# Altium schematic symbol library JON_1_Library.SchLib: 191 symbols
Pins are listed as number, name and electrical type; pins without a type are passive.

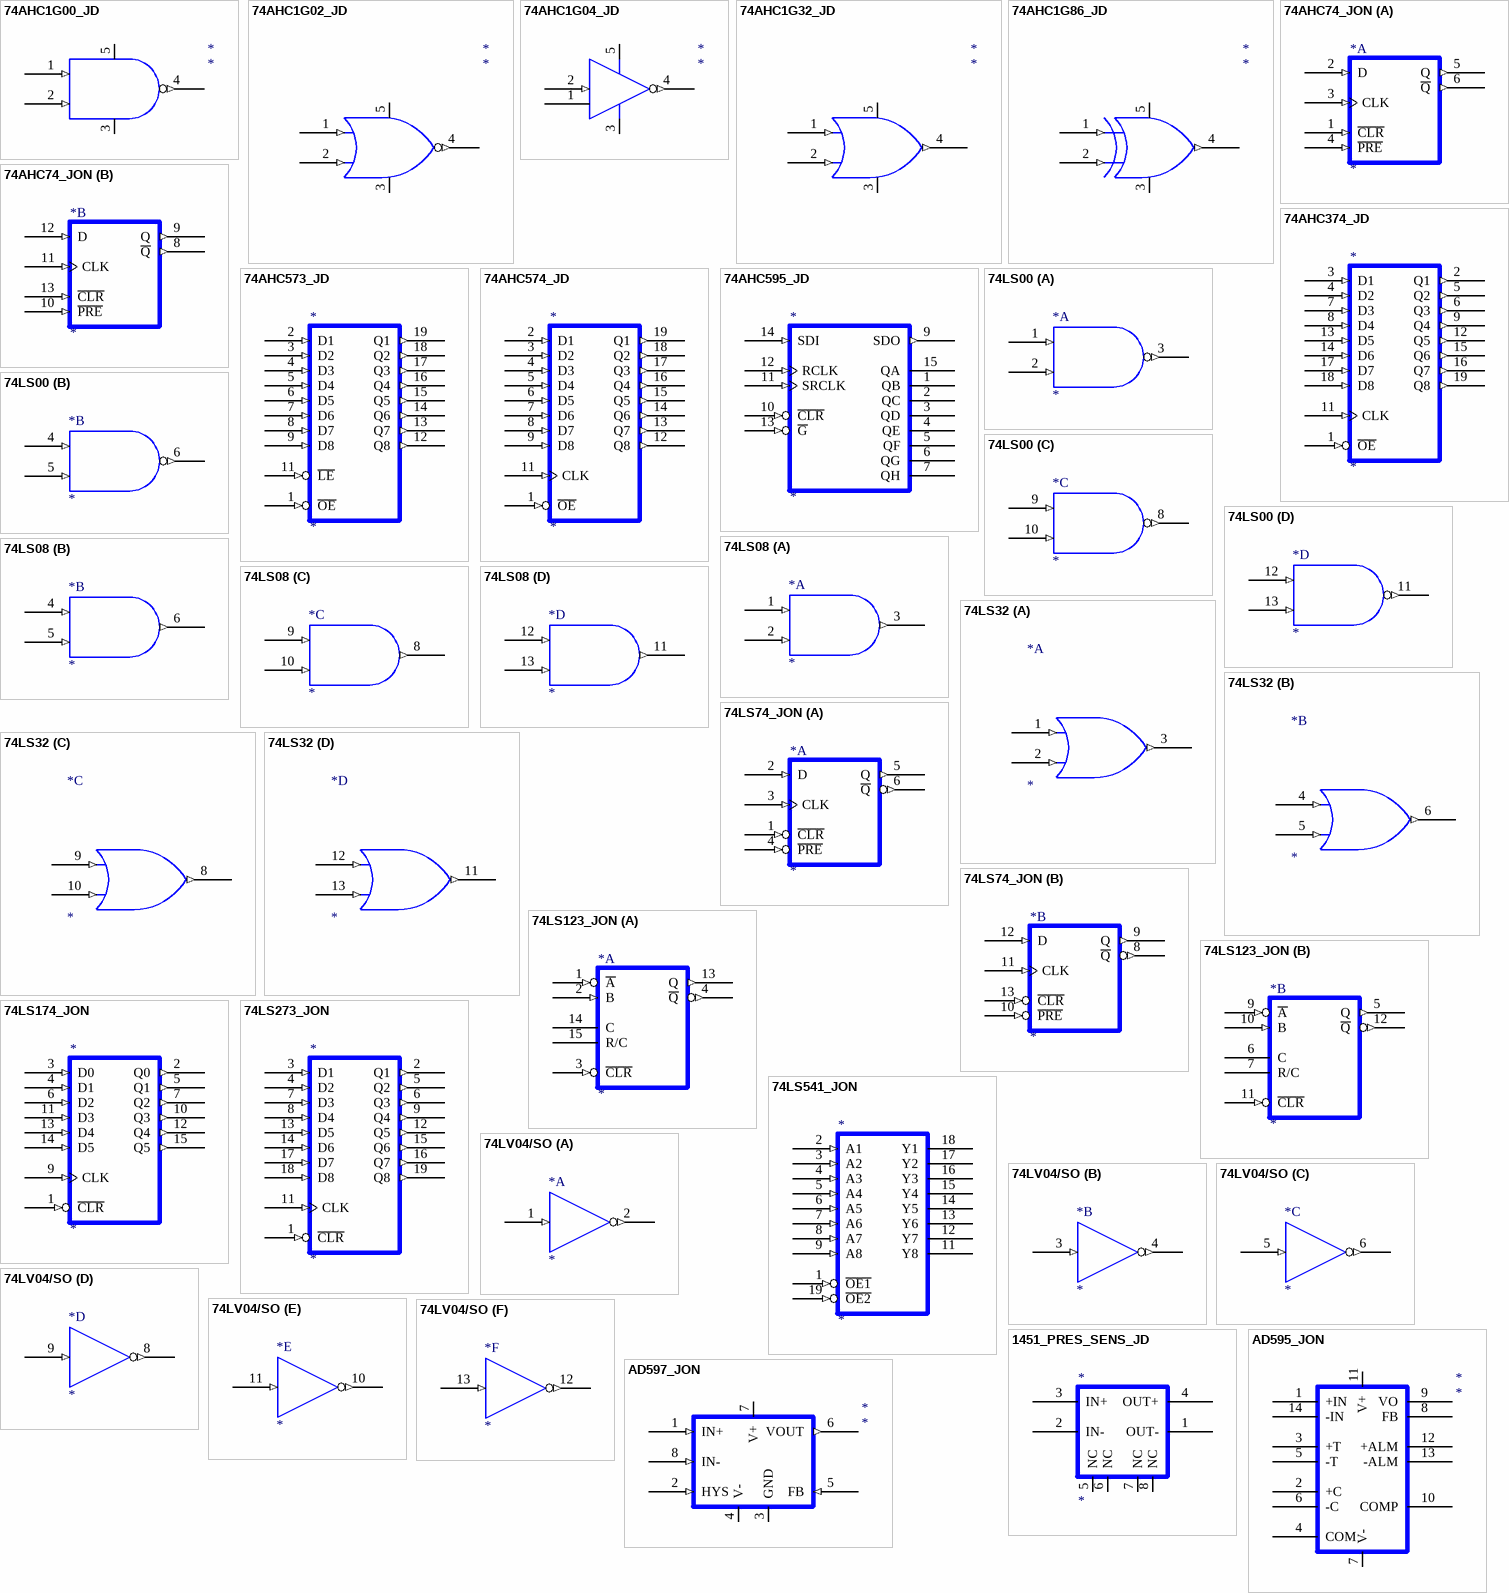
[diagram p0: symbols 74AHC1G00_JD to AD597_JON]

## 74AHC1G00_JD
designator *
Right: 60; Bottom: 40
pins: 1 A (in), 2 B (in), 3 GND, 4 Y (out), 5 VCC

## 74AHC1G02_JD
designator *
Right: 60; Bottom: 40
pins: 1 A (in), 2 B (in), 3 GND, 4 Y (out), 5 VCC

## 74AHC1G04_JD
designator *
Right: 40; Bottom: 40
pins: 1 NC, 2 A (in), 3 GND, 4 Y (out), 5 VCC

## 74AHC1G32_JD
designator *
Right: 60; Bottom: 40
pins: 1 A (in), 2 B (in), 3 GND, 4 Y (out), 5 VCC

## 74AHC1G86_JD
designator *
Right: 60; Bottom: 40
pins: 1 A (in), 2 B (in), 3 GND, 4 Y (out), 5 VCC

## 74AHC74_JON
designator *
Right: 60; Bottom: 70
part A pins: 1 ~{CLR} (in), 2 D (in), 3 CLK (in), 4 ~{PRE} (in), 5 Q (out), 6 ~{Q} (out), 7 GND (power) hidden to GND, 14 VCC (power) hidden to VCC
part B pins: 7 GND (power) hidden to GND, 8 ~{Q} (out), 9 Q (out), 10 ~{PRE} (in), 11 CLK (in), 12 D (in), 13 ~{CLR} (in), 14 VCC (power) hidden to VCC

## 74AHC374_JD
designator *
Right: 60; Bottom: 130
pins: 1 ~{OE} (in), 2 Q1 (out), 3 D1 (in), 4 D2 (in), 5 Q2 (out), 6 Q3 (out), 7 D3 (in), 8 D4 (in), 9 Q4 (out), 10 GND (power) hidden to GND, 11 CLK (in), 12 Q5 (out), 13 D5 (in), 14 D6 (in), 15 Q6 (out), 16 Q7 (out), 17 D7 (in), 18 D8 (in), 19 Q8 (out), 20 VCC (power) hidden to VCC

## 74AHC573_JD
designator *
Right: 60; Bottom: 130
pins: 1 ~{OE} (in), 2 D1 (in), 3 D2 (in), 4 D3 (in), 5 D4 (in), 6 D5 (in), 7 D6 (in), 8 D7 (in), 9 D8 (in), 10 GND (power) hidden to GND, 11 ~{LE} (in), 12 Q8 (out), 13 Q7 (out), 14 Q6 (out), 15 Q5 (out), 16 Q4 (out), 17 Q3 (out), 18 Q2 (out), 19 Q1 (out), 20 VCC (power) hidden to VCC

## 74AHC574_JD
designator *
Right: 60; Bottom: 130
pins: 1 ~{OE} (in), 2 D1 (in), 3 D2 (in), 4 D3 (in), 5 D4 (in), 6 D5 (in), 7 D6 (in), 8 D7 (in), 9 D8 (in), 10 GND (power) hidden to GND, 11 CLK (in), 12 Q8 (out), 13 Q7 (out), 14 Q6 (out), 15 Q5 (out), 16 Q4 (out), 17 Q3 (out), 18 Q2 (out), 19 Q1 (out), 20 VCC (power) hidden to VCC

## 74AHC595_JD
designator *
Right: 80; Bottom: 110
pins: 1 QB (hiz), 2 QC (hiz), 3 QD (hiz), 4 QE (hiz), 5 QF (hiz), 6 QG (hiz), 7 QH (hiz), 8 GND (power) hidden to GND, 9 SDO (out), 10 ~{CLR} (in), 11 SRCLK (in), 12 RCLK (in), 13 ~{G} (in), 14 SDI (in), 15 QA (hiz), 16 VCC (power) hidden to VCC

## 74LS00
designator *
Right: 60; Bottom: 40
part A pins: 1 A (in), 2 B (in), 3 Y (out), 7 GND (power) hidden to GND, 14 VCC (power) hidden to VCC
part B pins: 4 A (in), 5 B (in), 6 Y (out), 7 GND (power) hidden to GND, 14 VCC (power) hidden to VCC
part C pins: 7 GND (power) hidden to GND, 8 Y (out), 9 A (in), 10 B (in), 14 VCC (power) hidden to VCC
part D pins: 7 GND (power) hidden to GND, 11 Y (out), 12 A (in), 13 B (in), 14 VCC (power) hidden to VCC

## 74LS08
designator *
Right: 60; Bottom: 40
part A pins: 1 I0 (in), 2 I1 (in), 3 O (out), 7 GND (power) hidden to GND, 14 VCC (power) hidden to VCC
part B pins: 4 I0 (in), 5 I1 (in), 6 O (out), 7 GND (power) hidden to GND, 14 VCC (power) hidden to VCC
part C pins: 7 GND (power) hidden to GND, 8 O (out), 9 I0 (in), 10 I1 (in), 14 VCC (power) hidden to VCC
part D pins: 7 GND (power) hidden to GND, 11 O (out), 12 I0 (in), 13 I1 (in), 14 VCC (power) hidden to VCC

## 74LS32
designator *
Right: 60; Bottom: 40
part A pins: 1 I0 (in), 2 I1 (in), 3 O (out), 7 GND (power) hidden to GND, 14 VCC (power) hidden to VCC
part B pins: 4 I0 (in), 5 I1 (in), 6 O (out), 7 GND (power) hidden to GND, 14 VCC (power) hidden to VCC
part C pins: 7 GND (power) hidden to GND, 8 O (out), 9 I0 (in), 10 I1 (in), 14 VCC (power) hidden to VCC
part D pins: 7 GND (power) hidden to GND, 11 O (out), 12 I0 (in), 13 I1 (in), 14 VCC (power) hidden to VCC

## 74LS74_JON
designator *
Right: 60; Bottom: 70
part A pins: 1 ~{CLR} (in), 2 D (in), 3 CLK (in), 4 ~{PRE} (in), 5 Q (out), 6 ~{Q} (out), 7 GND (power) hidden to GND, 14 VCC (power) hidden to VCC
part B pins: 7 GND (power) hidden to GND, 8 ~{Q} (out), 9 Q (out), 10 ~{PRE} (in), 11 CLK (in), 12 D (in), 13 ~{CLR} (in), 14 VCC (power) hidden to VCC

## 74LS123_JON
designator *
Right: 60; Bottom: 80
part A pins: 1 ~{A} (in), 2 B (in), 3 ~{CLR} (in), 4 ~{Q} (out), 8 GND (power) hidden to GND, 13 Q (out), 14 C, 15 R/C, 16 VCC (power) hidden to VCC
part B pins: 5 Q (out), 6 C, 7 R/C, 8 GND (power) hidden to GND, 9 ~{A} (in), 10 B (in), 11 ~{CLR} (in), 12 ~{Q} (out), 16 VCC (power) hidden to VCC

## 74LS174_JON
designator *
Right: 60; Bottom: 110
pins: 1 ~{CLR} (in), 2 Q0 (out), 3 D0 (in), 4 D1 (in), 5 Q1 (out), 6 D2 (in), 7 Q2 (out), 8 GND (power) hidden to GND, 9 CLK (in), 10 Q3 (out), 11 D3 (in), 12 Q4 (out), 13 D4 (in), 14 D5 (in), 15 Q5 (out), 16 VCC (power) hidden to VCC

## 74LS273_JON
designator *
Right: 60; Bottom: 130
pins: 1 ~{CLR} (in), 2 Q1 (out), 3 D1 (in), 4 D2 (in), 5 Q2 (out), 6 Q3 (out), 7 D3 (in), 8 D4 (in), 9 Q4 (out), 10 GND (power) hidden to GND, 11 CLK (in), 12 Q5 (out), 13 D5 (in), 14 D6 (in), 15 Q6 (out), 16 Q7 (out), 17 D7 (in), 18 D8 (in), 19 Q8 (out), 20 VCC (power) hidden to VCC

## 74LS541_JON
designator *
Right: 60; Bottom: 120
pins: 1 ~{OE1} (in), 2 A1 (in), 3 A2 (in), 4 A3 (in), 5 A4 (in), 6 A5 (in), 7 A6 (in), 8 A7 (in), 9 A8 (in), 10 GND (power) hidden to GND, 11 Y8 (hiz), 12 Y7 (hiz), 13 Y6 (hiz), 14 Y5 (hiz), 15 Y4 (hiz), 16 Y3 (hiz), 17 Y2 (hiz), 18 Y1 (hiz), 19 ~{OE2} (in), 20 VCC (power) hidden to VCC

## 74LV04/SO
designator *
Right: 40; Bottom: 40
part A pins: 1 A (in), 2 Y (out), 7 GND (power) hidden to GND, 14 VCC (power) hidden to VCC
part B pins: 3 A (in), 4 Y (out), 7 GND (power) hidden to GND, 14 VCC (power) hidden to VCC
part C pins: 5 A (in), 6 Y (out), 7 GND (power) hidden to GND, 14 VCC (power) hidden to VCC
part D pins: 7 GND (power) hidden to GND, 8 Y (out), 9 A (in), 14 VCC (power) hidden to VCC
part E pins: 7 GND (power) hidden to GND, 10 Y (out), 11 A (in), 14 VCC (power) hidden to VCC
part F pins: 7 GND (power) hidden to GND, 12 Y (out), 13 A (in), 14 VCC (power) hidden to VCC

## 1451_PRES_SENS_JD
designator *
Right: 60; Bottom: 60
pins: 1 OUT-, 2 IN-, 3 IN+, 4 OUT+, 5 NC, 6 NC, 7 NC, 8 NC

## AD595_JON
designator *
Right: 60; Bottom: 110
pins: 1 +IN, 2 +C, 3 +T, 4 COM, 5 -T, 6 -C, 7 V-, 8 FB, 9 VO, 10 COMP, 11 V+, 12 +ALM, 13 -ALM, 14 -IN

## AD597_JON
designator *
Right: 80; Bottom: 60
pins: 1 IN+ (in), 2 HYS (in), 3 GND, 4 V-, 5 FB (in), 6 VOUT (out), 7 V+, 8 IN- (in)

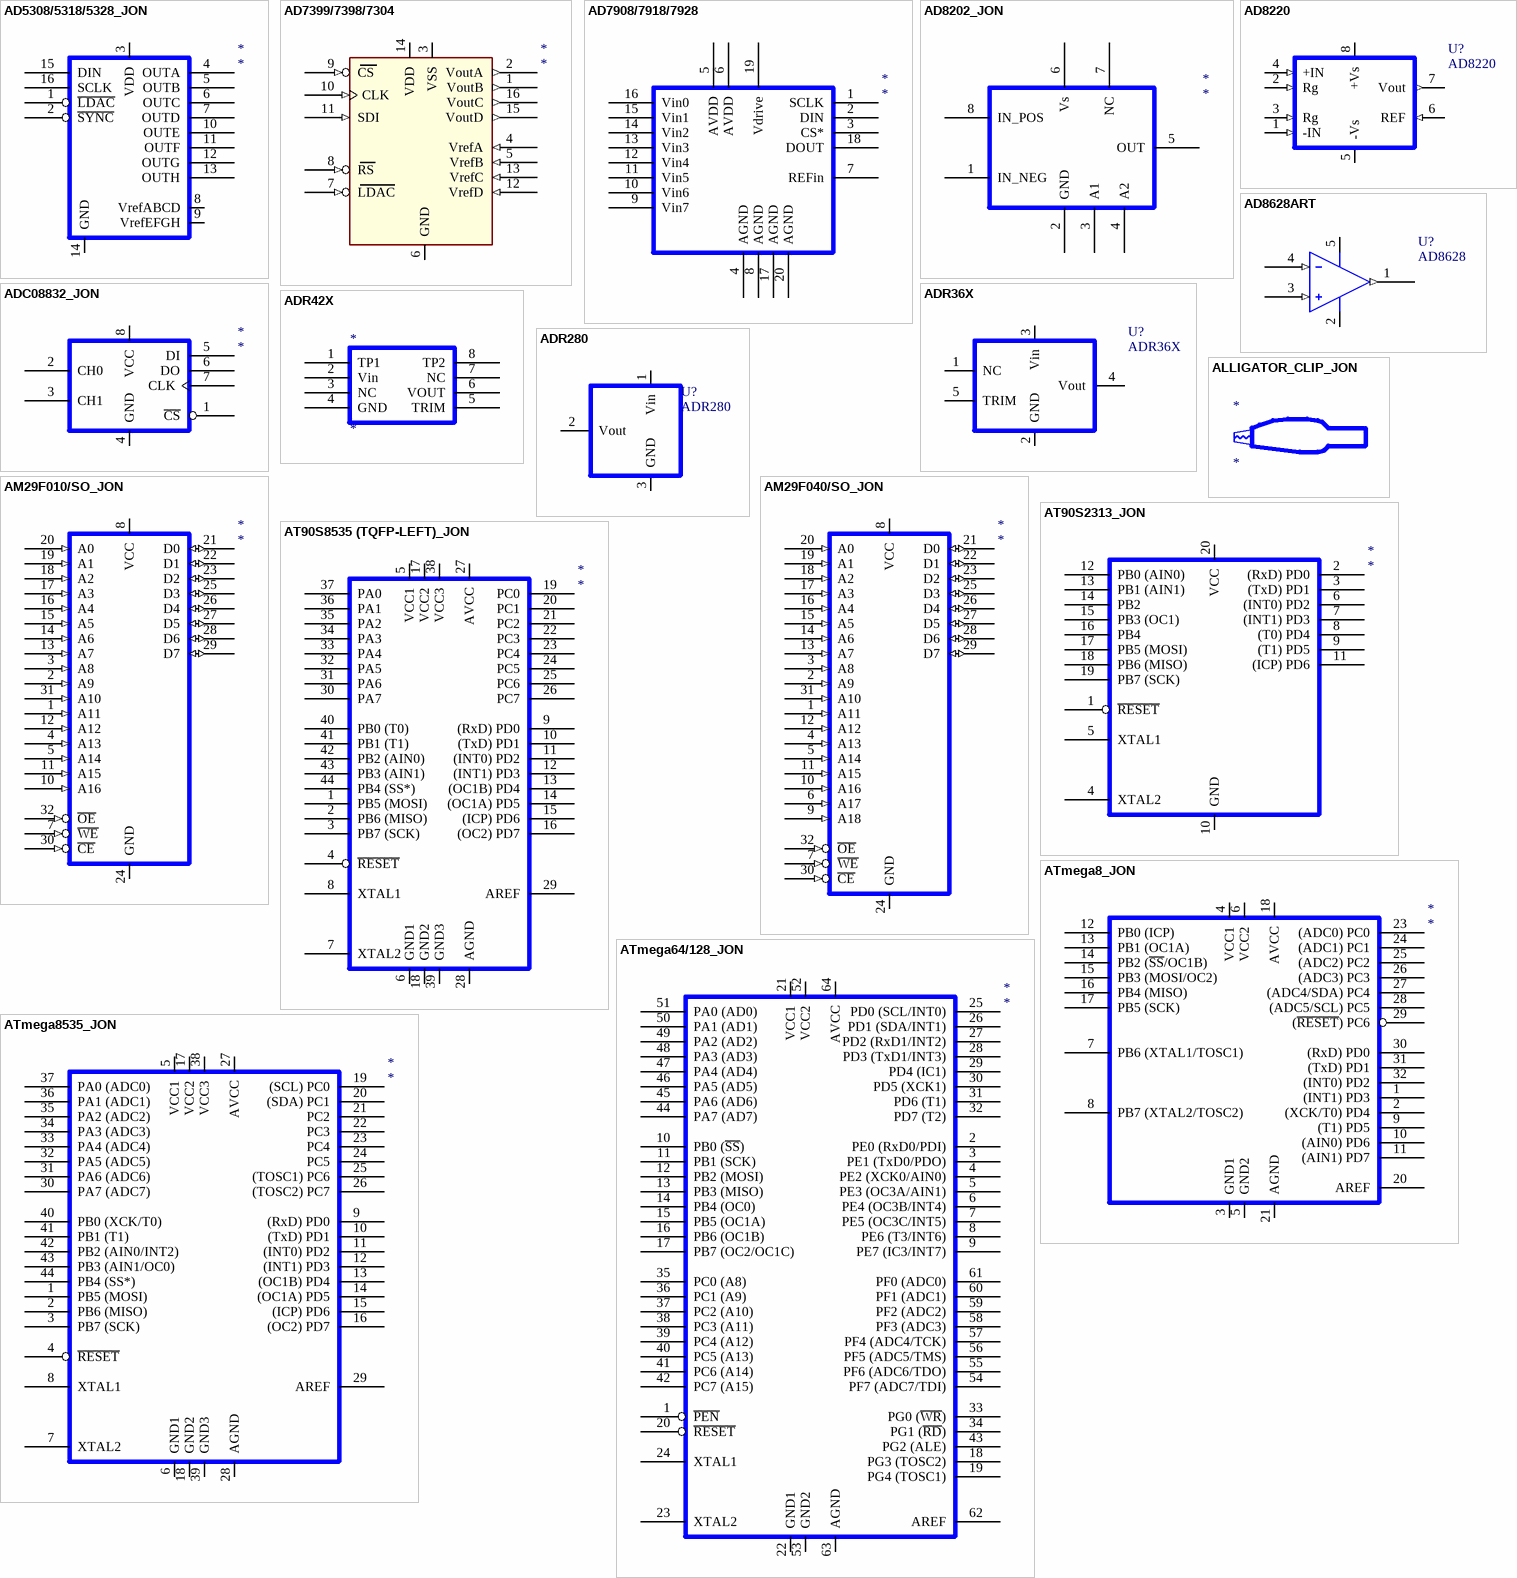
[diagram p1: symbols AD5308/5318/5328_JON to ATmega8535_JON]

## AD5308/5318/5328_JON
designator *
Right: 80; Bottom: 120
pins: 1 ~{LDAC}, 2 ~{SYNC}, 3 VDD, 4 OUTA, 5 OUTB, 6 OUTC, 7 OUTD, 8 VrefABCD, 9 VrefEFGH, 10 OUTE, 11 OUTF, 12 OUTG, 13 OUTH, 14 GND, 15 DIN, 16 SCLK

## AD7399/7398/7304
designator *
pins: 1 VoutB (out), 2 VoutA (out), 3 VSS (power), 4 VrefA (in), 5 VrefB (in), 6 GND (power), 7 LDAC (in), 8 RS (in), 9 CS (in), 10 CLK (in), 11 SDI (in), 12 VrefD (in), 13 VrefC (in), 14 VDD (power), 15 VoutD (out), 16 VoutC (out)

## AD7908/7918/7928
designator *
Right: 120; Bottom: 110
pins: 1 SCLK, 2 DIN, 3 CS*, 4 AGND, 5 AVDD, 6 AVDD, 7 REFin, 8 AGND, 9 Vin7, 10 Vin6, 11 Vin5, 12 Vin4, 13 Vin3, 14 Vin2, 15 Vin1, 16 Vin0, 17 AGND, 18 DOUT, 19 Vdrive, 20 AGND

## AD8202_JON
designator *
Right: 110; Bottom: 80
pins: 1 IN_NEG, 2 GND, 3 A1, 4 A2, 5 OUT, 6 Vs, 7 NC, 8 IN_POS

## AD8220
designator U?
pins: 1 -IN (in), 2 Rg (in), 3 Rg (in), 4 +IN (in), 5 -Vs (power), 6 REF (in), 7 Vout (out), 8 +Vs (power)

## AD8628ART
designator U?, comment AD8628
simulation model ad8628 (Model Description)
pins: 1 OUT (out), 2 V-, 3 +IN (in), 4 -IN (in), 5 V+

## ADC08832_JON
designator *
Right: 80; Bottom: 60
pins: 1 ~{CS}, 2 CH0, 3 CH1, 4 GND, 5 DI, 6 DO, 7 CLK, 8 VCC

## ADR36X
designator U?
pins: 1 NC, 2 GND, 3 Vin, 4 Vout, 5 TRIM

## ADR42X
designator *
Right: 70; Bottom: 50
pins: 1 TP1, 2 Vin, 3 NC, 4 GND, 5 TRIM, 6 VOUT, 7 NC, 8 TP2

## ADR280
designator U?
pins: 1 Vin, 2 Vout, 3 GND

## ALLIGATOR_CLIP_JON
designator *
Right: 90; Bottom: 40

## AM29F010/SO_JON
designator *
Right: 80; Bottom: 220
pins: 1 A11 (in), 2 A9 (in), 3 A8 (in), 4 A13 (in), 5 A14 (in), 7 ~{WE} (in), 8 VCC, 10 A16 (in), 11 A15 (in), 12 A12 (in), 13 A7 (in), 14 A6 (in), 15 A5 (in), 16 A4 (in), 17 A3 (in), 18 A2 (in), 19 A1 (in), 20 A0 (in), 21 D0 (io), 22 D1 (io), 23 D2 (io), 24 GND, 25 D3 (io), 26 D4 (io), 27 D5 (io), 28 D6 (io), 29 D7 (io), 30 ~{CE} (in), 31 A10 (in), 32 ~{OE} (in)

## AM29F040/SO_JON
designator *
Right: 80; Bottom: 240
pins: 1 A11 (in), 2 A9 (in), 3 A8 (in), 4 A13 (in), 5 A14 (in), 6 A17 (in), 7 ~{WE} (in), 8 VCC, 9 A18 (in), 10 A16 (in), 11 A15 (in), 12 A12 (in), 13 A7 (in), 14 A6 (in), 15 A5 (in), 16 A4 (in), 17 A3 (in), 18 A2 (in), 19 A1 (in), 20 A0 (in), 21 D0 (io), 22 D1 (io), 23 D2 (io), 24 GND, 25 D3 (io), 26 D4 (io), 27 D5 (io), 28 D6 (io), 29 D7 (io), 30 ~{CE} (in), 31 A10 (in), 32 ~{OE} (in)

## AT90S2313_JON
designator *
Right: 140; Bottom: 170
pins: 1 ~{RESET}, 2 (RxD) PD0, 3 (TxD) PD1, 4 XTAL2, 5 XTAL1, 6 (INT0) PD2, 7 (INT1) PD3, 8 (T0) PD4, 9 (T1) PD5, 10 GND, 11 (ICP) PD6, 12 PB0 (AIN0), 13 PB1 (AIN1), 14 PB2, 15 PB3 (OC1), 16 PB4, 17 PB5 (MOSI), 18 PB6 (MISO), 19 PB7 (SCK), 20 VCC

## AT90S8535 (TQFP-LEFT)_JON
designator *
Right: 120; Bottom: 260
pins: 1 PB5 (MOSI), 2 PB6 (MISO), 3 PB7 (SCK), 4 ~{RESET}, 5 VCC1, 6 GND1, 7 XTAL2, 8 XTAL1, 9 (RxD) PD0, 10 (TxD) PD1, 11 (INT0) PD2, 12 (INT1) PD3, 13 (OC1B) PD4, 14 (OC1A) PD5, 15 (ICP) PD6, 16 (OC2) PD7, 17 VCC2, 18 GND2, 19 PC0, 20 PC1, 21 PC2, 22 PC3, 23 PC4, 24 PC5, 25 PC6, 26 PC7, 27 AVCC, 28 AGND, 29 AREF, 30 PA7, 31 PA6, 32 PA5, 33 PA4, 34 PA3, 35 PA2, 36 PA1, 37 PA0, 38 VCC3, 39 GND3, 40 PB0 (T0), 41 PB1 (T1), 42 PB2 (AIN0), 43 PB3 (AIN1), 44 PB4 (SS*)

## ATmega8_JON
designator *
Right: 180; Bottom: 190
pins: 1 (INT1) PD3, 2 (XCK/T0) PD4, 3 GND1, 4 VCC1, 5 GND2, 6 VCC2, 7 PB6 (XTAL1/TOSC1), 8 PB7 (XTAL2/TOSC2), 9 (T1) PD5, 10 (AIN0) PD6, 11 (AIN1) PD7, 12 PB0 (ICP), 13 PB1 (OC1A), 14 PB2 (~{SS}/OC1B), 15 PB3 (MOSI/OC2), 16 PB4 (MISO), 17 PB5 (SCK), 18 AVCC, 20 AREF, 21 AGND, 23 (ADC0) PC0, 24 (ADC1) PC1, 25 (ADC2) PC2, 26 (ADC3) PC3, 27 (ADC4/SDA) PC4, 28 (ADC5/SCL) PC5, 29 (~{RESET}) PC6, 30 (RxD) PD0, 31 (TxD) PD1, 32 (INT0) PD2

## ATmega64/128_JON
designator *
Right: 180; Bottom: 360
pins: 1 ~{PEN}, 2 PE0 (RxD0/PDI), 3 PE1 (TxD0/PDO), 4 PE2 (XCK0/AIN0), 5 PE3 (OC3A/AIN1), 6 PE4 (OC3B/INT4), 7 PE5 (OC3C/INT5), 8 PE6 (T3/INT6), 9 PE7 (IC3/INT7), 10 PB0 (~{SS}), 11 PB1 (SCK), 12 PB2 (MOSI), 13 PB3 (MISO), 14 PB4 (OC0), 15 PB5 (OC1A), 16 PB6 (OC1B), 17 PB7 (OC2/OC1C), 18 PG3 (TOSC2), 19 PG4 (TOSC1), 20 ~{RESET}, 21 VCC1, 22 GND1, 23 XTAL2, 24 XTAL1, 25 PD0 (SCL/INT0), 26 PD1 (SDA/INT1), 27 PD2 (RxD1/INT2), 28 PD3 (TxD1/INT3), 29 PD4 (IC1), 30 PD5 (XCK1), 31 PD6 (T1), 32 PD7 (T2), 33 PG0 (~{WR}), 34 PG1 (~{RD}), 35 PC0 (A8), 36 PC1 (A9), 37 PC2 (A10), 38 PC3 (A11), 39 PC4 (A12), 40 PC5 (A13), 41 PC6 (A14), 42 PC7 (A15), 43 PG2 (ALE), 44 PA7 (AD7), 45 PA6 (AD6), 46 PA5 (AD5), 47 PA4 (AD4), 48 PA3 (AD3), 49 PA2 (AD2), 50 PA1 (AD1), 51 PA0 (AD0), 52 VCC2, 53 GND2, 54 PF7 (ADC7/TDI), 55 PF6 (ADC6/TDO), 56 PF5 (ADC5/TMS), 57 PF4 (ADC4/TCK), 58 PF3 (ADC3), 59 PF2 (ADC2), 60 PF1 (ADC1), 61 PF0 (ADC0), 62 AREF, 63 AGND, 64 AVCC

## ATmega8535_JON
designator *
Right: 180; Bottom: 260
pins: 1 PB5 (MOSI), 2 PB6 (MISO), 3 PB7 (SCK), 4 ~{RESET}, 5 VCC1, 6 GND1, 7 XTAL2, 8 XTAL1, 9 (RxD) PD0, 10 (TxD) PD1, 11 (INT0) PD2, 12 (INT1) PD3, 13 (OC1B) PD4, 14 (OC1A) PD5, 15 (ICP) PD6, 16 (OC2) PD7, 17 VCC2, 18 GND2, 19 (SCL) PC0, 20 (SDA) PC1, 21 PC2, 22 PC3, 23 PC4, 24 PC5, 25 (TOSC1) PC6, 26 (TOSC2) PC7, 27 AVCC, 28 AGND, 29 AREF, 30 PA7 (ADC7), 31 PA6 (ADC6), 32 PA5 (ADC5), 33 PA4 (ADC4), 34 PA3 (ADC3), 35 PA2 (ADC2), 36 PA1 (ADC1), 37 PA0 (ADC0), 38 VCC3, 39 GND3, 40 PB0 (XCK/T0), 41 PB1 (T1), 42 PB2 (AIN0/INT2), 43 PB3 (AIN1/OC0), 44 PB4 (SS*)

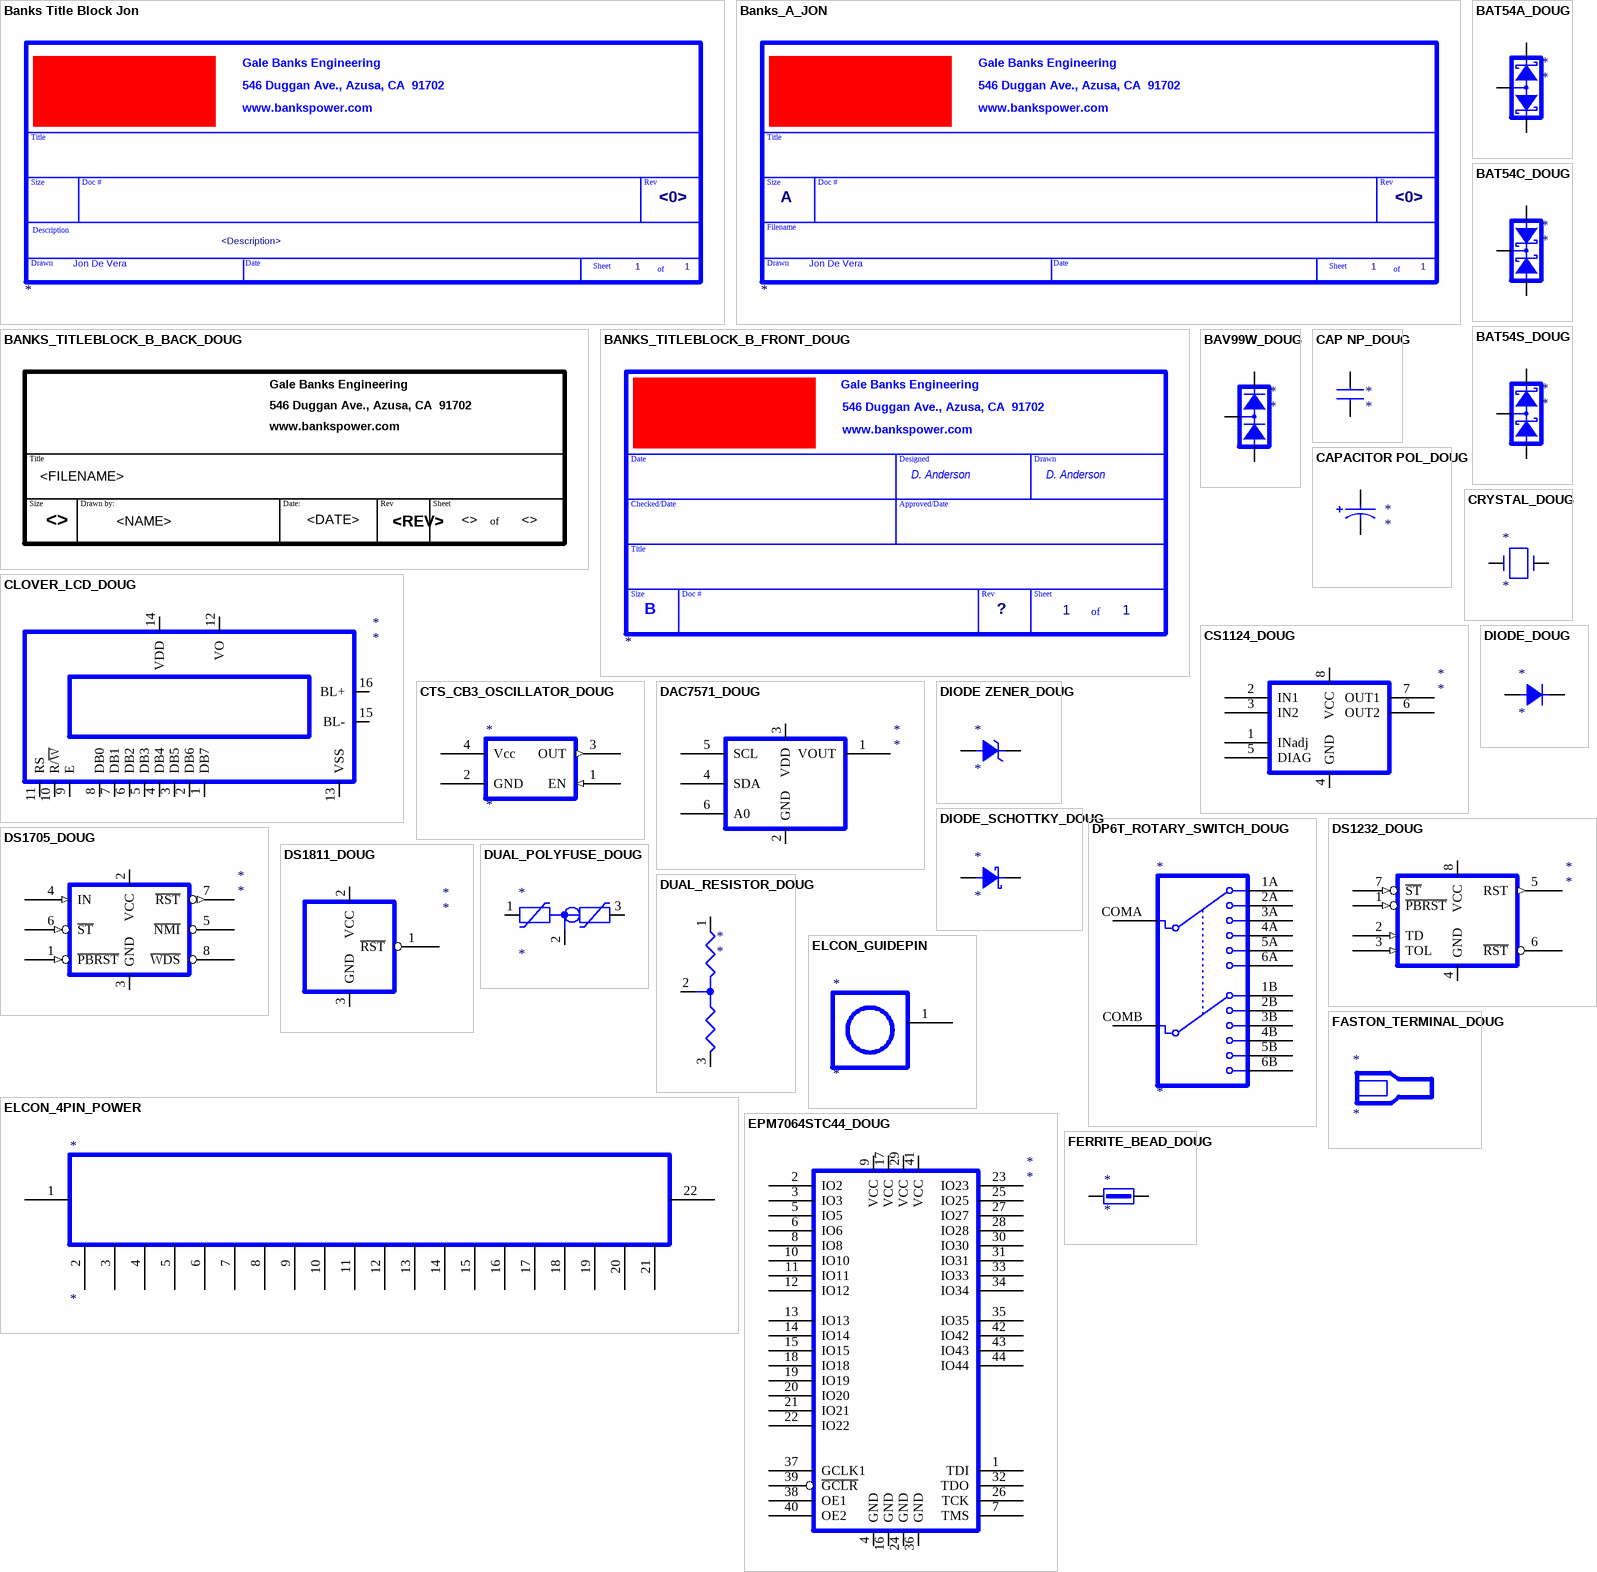
[diagram p2: symbols Banks Title Block Jon to FERRITE_BEAD_DOUG]

## Banks Title Block Jon
designator *  RevCode: <0>  Page Number: 1  Sheet Description: <Description>  (graphical)
Page Size: A; Right: 450; Bottom: 160; Page Count: 1
text: Gale Banks Engineering; 546 Duggan Ave., Azusa, CA  91702; www.bankspower.com; Title; Size; Doc #; Rev; Description; Drawn; Jon De Vera; Date; Sheet; of

## Banks_A_JON
designator *  Page Size: A  Page Count: 1  RevCode: <0>  (graphical)
Right: 450; Bottom: 160; Page Number: 1
text: Gale Banks Engineering; 546 Duggan Ave., Azusa, CA  91702; www.bankspower.com; Title; Size; Doc #; Rev; Filename; Drawn; Jon De Vera; Date; Sheet; of

## BANKS_TITLEBLOCK_B_BACK_DOUG
designator *  Design File Name: <FILENAME>  Page Modify Date: <DATE>  Page Size: <>  Author: <NAME>  RevCode: <REV>  (hidden comment: *)  (graphical)
Right: 360; Bottom: 120; Page Number: <>; Page Count: <>
text: Gale Banks Engineering; 546 Duggan Ave., Azusa, CA  91702; www.bankspower.com; Title; Size; Drawn by:; Date:; Rev; Sheet; of

## BANKS_TITLEBLOCK_B_FRONT_DOUG
designator *  Page Number: 1  (graphical)
Right: 360; Bottom: 180; Page Size: ?; RevCode: ?; Page Count: 1
text: Gale Banks Engineering; 546 Duggan Ave., Azusa, CA  91702; www.bankspower.com; Date; Designed; Drawn; D. Anderson; Checked/Date; Approved/Date; Title; Size; Doc #; Rev; Sheet; B; of

## BAT54A_DOUG
designator *
Right: 20; Bottom: 40
pins: ANOD, CATH1, CATH2

## BAT54C_DOUG
designator *
Right: 20; Bottom: 40
pins: ANOD1, ANOD2, CATH

## BAT54S_DOUG
designator *
Right: 20; Bottom: 40
footprint SOT23A (SOT-23; 3 Leads; Body 3.0 x 2.5 mm, inc. leads (LxW max)); pin to pad ANOD>1 CATH>2 JUNC>3
pins: ANOD, CATH, JUNC

## BAV99W_DOUG
designator *
Right: 20; Bottom: 40
pins: ANOD, CATH, JUNC

## CAP NP_DOUG
designator *
Right: 20; Bottom: 10
pins: 1, 2

## CAPACITOR POL_DOUG
designator *
Right: 30; Bottom: 10
pins: 1 POS, 2 NEG

## CLOVER_LCD_DOUG
designator *
Right: 220; Bottom: 100
pins: 1 DB7, 2 DB6, 3 DB5, 4 DB4, 5 DB3, 6 DB2, 7 DB1, 8 DB0, 9 E, 10 R/~{W}, 11 RS, 12 VO, 13 VSS, 14 VDD, 15 BL-, 16 BL+

## CRYSTAL_DOUG
designator *
Right: 20; Bottom: 20
pins: 1, 2

## CS1124_DOUG
designator *
Right: 80; Bottom: 60
pins: 1 INadj, 2 IN1, 3 IN2, 4 GND, 5 DIAG, 6 OUT2, 7 OUT1, 8 VCC

## CTS_CB3_OSCILLATOR_DOUG
designator *
Right: 60; Bottom: 40
pins: 1 EN (in), 2 GND, 3 OUT (out), 4 Vcc

## DAC7571_DOUG
designator *
Right: 80; Bottom: 60
pins: 1 VOUT, 2 GND, 3 VDD, 4 SDA, 5 SCL, 6 A0

## DIODE ZENER_DOUG
designator *
Right: 20; Bottom: 20
pins: ANOD, CATH

## DIODE_DOUG
designator *
Right: 20; Bottom: 20
pins: ANOD, CATH

## DIODE_SCHOTTKY_DOUG
designator *
Right: 20; Bottom: 20
pins: ANOD, CATH

## DP6T_ROTARY_SWITCH_DOUG
designator *
Right: 60; Bottom: 140
pins: 1A, 1B, 2A, 2B, 3A, 3B, 4A, 4B, 5A, 5B, 6A, 6B, COMA, COMB

## DS1232_DOUG
designator *
Right: 80; Bottom: 60
pins: 1 ~{PBRST} (in), 2 TD (in), 3 TOL (in), 4 GND, 5 RST (out), 6 ~{RST} (oc), 7 ~{ST} (in), 8 VCC

## DS1705_DOUG
designator *
Right: 80; Bottom: 60
pins: 1 ~{PBRST} (in), 2 VCC, 3 GND, 4 IN (in), 5 ~{NMI} (oc), 6 ~{ST} (in), 7 ~{RST} (out), 8 ~{WDS} (oc)

## DS1811_DOUG
designator *
Right: 60; Bottom: 60
pins: 1 ~{RST}, 2 VCC, 3 GND

## DUAL_POLYFUSE_DOUG
designator *
Right: 60; Bottom: 20
pins: 1, 2, 3

## DUAL_RESISTOR_DOUG
designator *
Right: 20; Bottom: 80
pins: 1, 2, 3

## ELCON_4PIN_POWER
designator *
Right: 400; Bottom: 60
pins: 1, 2, 3, 4, 5, 6, 7, 8, 9, 10, 11, 12, 13, 14, 15, 16, 17, 18, 19, 20, 21, 22

## ELCON_GUIDEPIN
designator *
Right: 50; Bottom: 50
pins: 1

## EPM7064STC44_DOUG
designator *
Right: 110; Bottom: 240
pins: 1 TDI, 2 IO2, 3 IO3, 4 GND, 5 IO5, 6 IO6, 7 TMS, 8 IO8, 9 VCC, 10 IO10, 11 IO11, 12 IO12, 13 IO13, 14 IO14, 15 IO15, 16 GND, 17 VCC, 18 IO18, 19 IO19, 20 IO20, 21 IO21, 22 IO22, 23 IO23, 24 GND, 25 IO25, 26 TCK, 27 IO27, 28 IO28, 29 VCC, 30 IO30, 31 IO31, 32 TDO, 33 IO33, 34 IO34, 35 IO35, 36 GND, 37 GCLK1, 38 OE1, 39 ~{GCLR}, 40 OE2, 41 VCC, 42 IO42, 43 IO43, 44 IO44

## FASTON_TERMINAL_DOUG
designator *
Right: 50; Bottom: 20

## FERRITE_BEAD_DOUG
designator *
Right: 20; Bottom: 20
pins: 1, 2

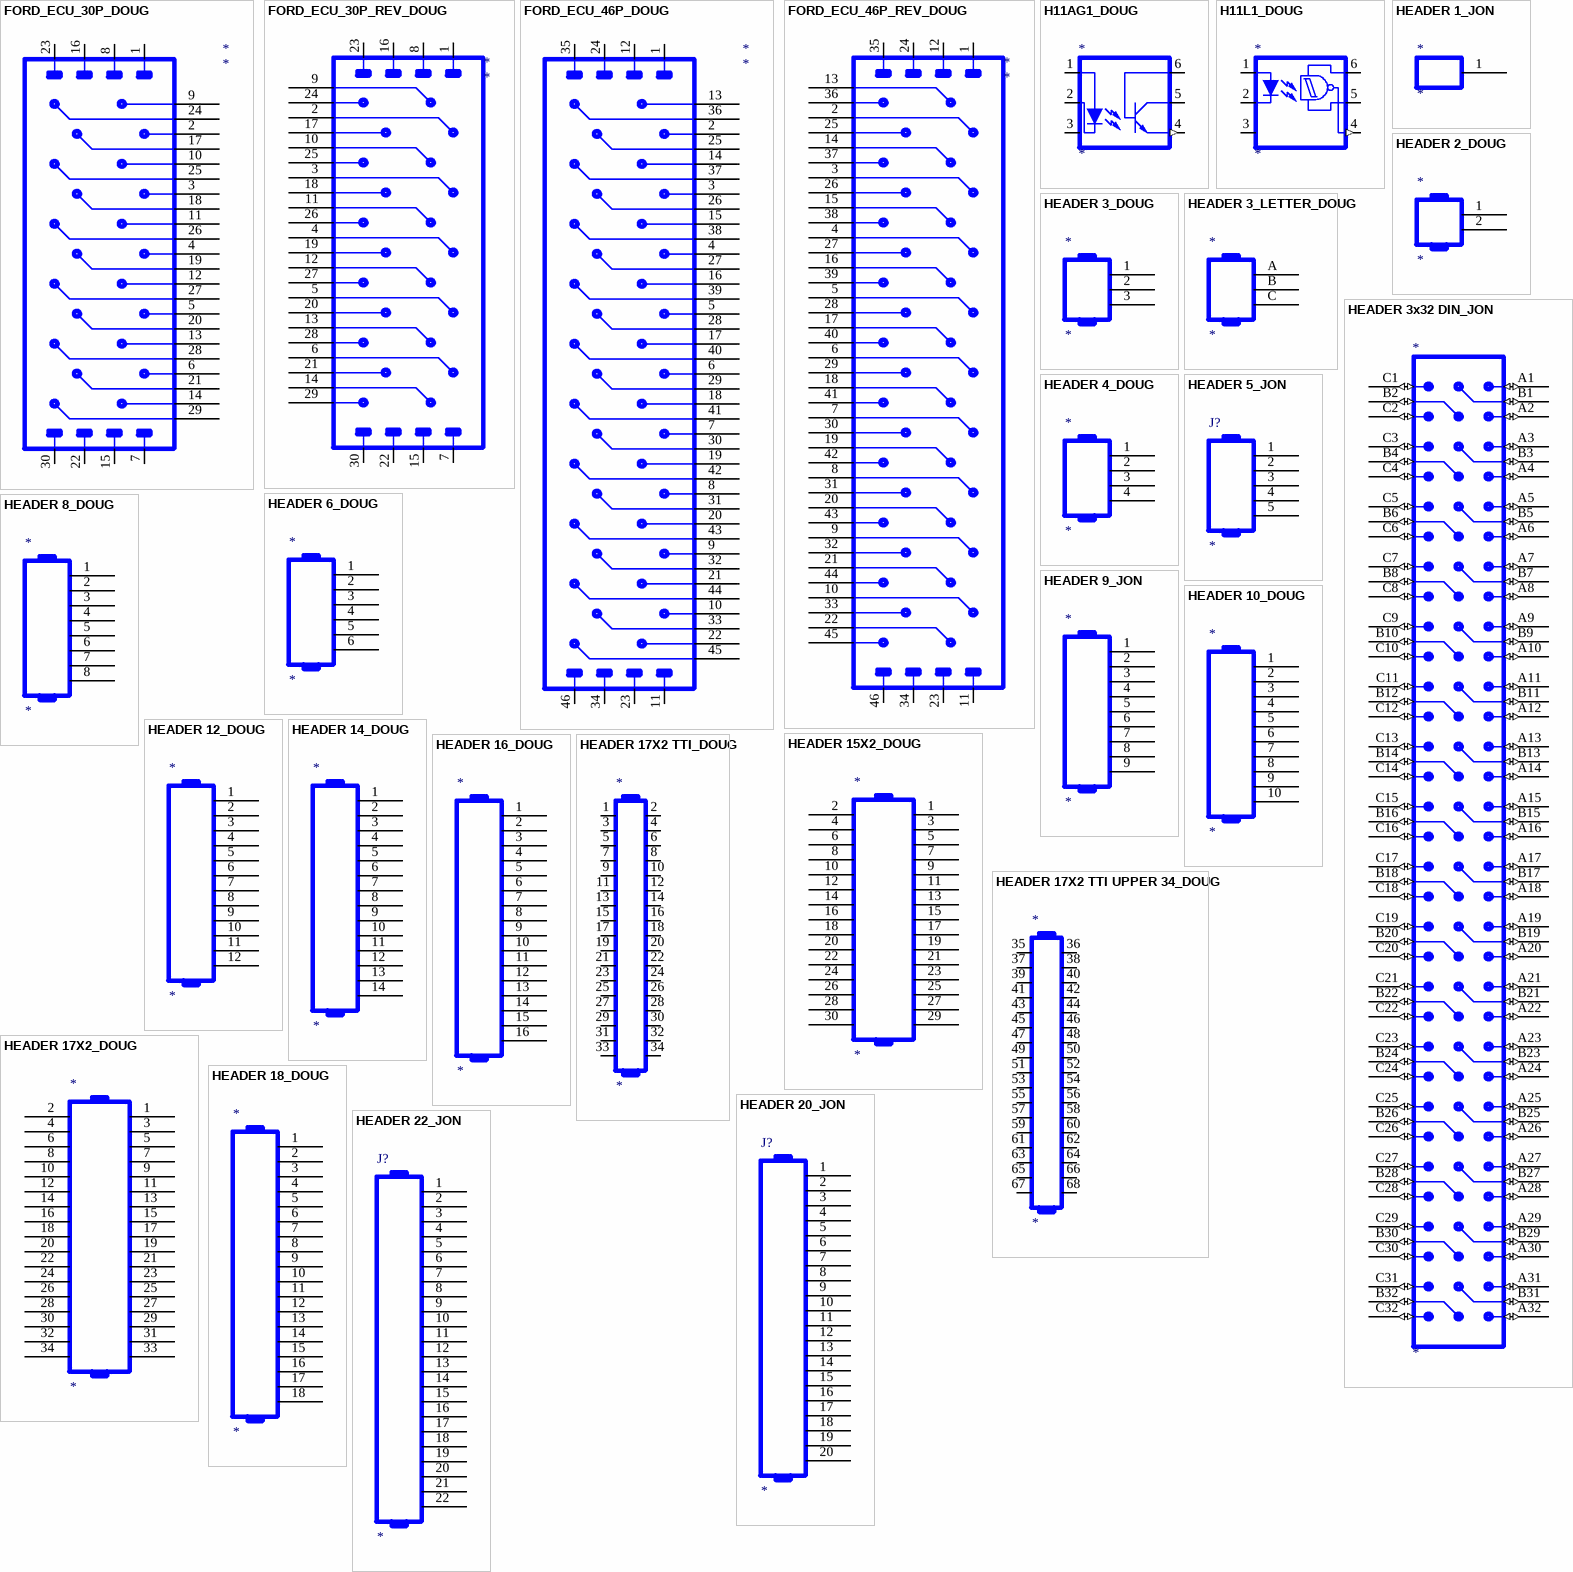
[diagram p3: symbols FORD_ECU_30P_DOUG to HEADER 22_JON]

## FORD_ECU_30P_DOUG
designator *
Right: 100; Bottom: 260
pins: 1, 2, 3, 4, 5, 6, 7, 8, 9, 10, 11, 12, 13, 14, 15, 16, 17, 18, 19, 20, 21, 22, 23, 24, 25, 26, 27, 28, 29, 30

## FORD_ECU_30P_REV_DOUG
designator *
Right: 100; Bottom: 260
pins: 1, 2, 3, 4, 5, 6, 7, 8, 9, 10, 11, 12, 13, 14, 15, 16, 17, 18, 19, 20, 21, 22, 23, 24, 25, 26, 27, 28, 29, 30

## FORD_ECU_46P_DOUG
designator *
Right: 100; Bottom: 420
pins: 1, 2, 3, 4, 5, 6, 7, 8, 9, 10, 11, 12, 13, 14, 15, 16, 17, 18, 19, 20, 21, 22, 23, 24, 25, 26, 27, 28, 29, 30, 31, 32, 33, 34, 35, 36, 37, 38, 39, 40, 41, 42, 43, 44, 45, 46

## FORD_ECU_46P_REV_DOUG
designator *
Right: 100; Bottom: 420
pins: 1, 2, 3, 4, 5, 6, 7, 8, 9, 10, 11, 12, 13, 14, 15, 16, 17, 18, 19, 20, 21, 22, 23, 24, 25, 26, 27, 28, 29, 30, 31, 32, 33, 34, 35, 36, 37, 38, 39, 40, 41, 42, 43, 44, 45, 46

## H11AG1_DOUG
designator *
Right: 60; Bottom: 60
pins: 1 LED ANODE, 2 LED CATHODE, 3 NC, 4 DET EMIT (out), 5 DET COLL, 6 DET BASE

## H11L1_DOUG
designator *
Right: 60; Bottom: 60
pins: 1 LED ANODE, 2 LED CATHODE, 3 NC, 4 OUT (out), 5 GROUND, 6 +VCC

## HEADER 1_JON
designator *
pins: 1

## HEADER 2_DOUG
designator *
Right: 30; Bottom: 50
pins: 1, 2

## HEADER 3_DOUG
designator *
Right: 30; Bottom: 60
pins: 1, 2, 3

## HEADER 3_LETTER_DOUG
designator *
Right: 30; Bottom: 60
pins: A, B, C

## HEADER 3x32 DIN_JON
designator *
Right: 60; Bottom: 660
pins: A1 (io), A2 (io), A3 (io), A4 (io), A5 (io), A6 (io), A7 (io), A8 (io), A9 (io), A10 (io), A11 (io), A12 (io), A13 (io), A14 (io), A15 (io), A16 (io), A17 (io), A18 (io), A19 (io), A20 (io), A21 (io), A22 (io), A23 (io), A24 (io), A25 (io), A26 (io), A27 (io), A28 (io), A29 (io), A30 (io), A31 (io), A32 (io), B1 (io), B2 (io), B3 (io), B4 (io), B5 (io), B6 (io), B7 (io), B8 (io), B9 (io), B10 (io), B11 (io), B12 (io), B13 (io), B14 (io), B15 (io), B16 (io), B17 (io), B18 (io), B19 (io), B20 (io), B21 (io), B22 (io), B23 (io), B24 (io), B25 (io), B26 (io), B27 (io), B28 (io), B29 (io), B30 (io), B31 (io), B32 (io), C1 (io), C2 (io), C3 (io), C4 (io), C5 (io), C6 (io), C7 (io), C8 (io), C9 (io), C10 (io), C11 (io), C12 (io), C13 (io), C14 (io), C15 (io), C16 (io), C17 (io), C18 (io), C19 (io), C20 (io), C21 (io), C22 (io), C23 (io), C24 (io), C25 (io), C26 (io), C27 (io), C28 (io), C29 (io), C30 (io), C31 (io), C32 (io)

## HEADER 4_DOUG
designator *
Right: 30; Bottom: 70
pins: 1, 2, 3, 4

## HEADER 5_JON
designator J?
pins: 1, 2, 3, 4, 5

## HEADER 6_DOUG
designator *
Right: 30; Bottom: 90
pins: 1, 2, 3, 4, 5, 6

## HEADER 8_DOUG
designator *
Right: 30; Bottom: 110
pins: 1, 2, 3, 4, 5, 6, 7, 8

## HEADER 9_JON
designator *
pins: 1, 2, 3, 4, 5, 6, 7, 8, 9

## HEADER 10_DOUG
designator *
Right: 30; Bottom: 130
pins: 1, 2, 3, 4, 5, 6, 7, 8, 9, 10

## HEADER 12_DOUG
designator *
Right: 30; Bottom: 150
pins: 1, 2, 3, 4, 5, 6, 7, 8, 9, 10, 11, 12

## HEADER 14_DOUG
designator *
Right: 30; Bottom: 170
pins: 1, 2, 3, 4, 5, 6, 7, 8, 9, 10, 11, 12, 13, 14

## HEADER 15X2_DOUG
designator *
Right: 40; Bottom: 180
pins: 1, 2, 3, 4, 5, 6, 7, 8, 9, 10, 11, 12, 13, 14, 15, 16, 17, 18, 19, 20, 21, 22, 23, 24, 25, 26, 27, 28, 29, 30

## HEADER 16_DOUG
designator *
Right: 30; Bottom: 190
pins: 1, 2, 3, 4, 5, 6, 7, 8, 9, 10, 11, 12, 13, 14, 15, 16

## HEADER 17X2 TTI UPPER 34_DOUG
designator *
Right: 20; Bottom: 200
pins: 35, 36, 37, 38, 39, 40, 41, 42, 43, 44, 45, 46, 47, 48, 49, 50, 51, 52, 53, 54, 55, 56, 57, 58, 59, 60, 61, 62, 63, 64, 65, 66, 67, 68

## HEADER 17X2 TTI_DOUG
designator *
Right: 20; Bottom: 200
pins: 1, 2, 3, 4, 5, 6, 7, 8, 9, 10, 11, 12, 13, 14, 15, 16, 17, 18, 19, 20, 21, 22, 23, 24, 25, 26, 27, 28, 29, 30, 31, 32, 33, 34

## HEADER 17X2_DOUG
designator *
Right: 40; Bottom: 200
pins: 1, 2, 3, 4, 5, 6, 7, 8, 9, 10, 11, 12, 13, 14, 15, 16, 17, 18, 19, 20, 21, 22, 23, 24, 25, 26, 27, 28, 29, 30, 31, 32, 33, 34

## HEADER 18_DOUG
designator *
Right: 30; Bottom: 210
pins: 1, 2, 3, 4, 5, 6, 7, 8, 9, 10, 11, 12, 13, 14, 15, 16, 17, 18

## HEADER 20_JON
designator J?
pins: 1, 2, 3, 4, 5, 6, 7, 8, 9, 10, 11, 12, 13, 14, 15, 16, 17, 18, 19, 20

## HEADER 22_JON
designator J?
pins: 1, 2, 3, 4, 5, 6, 7, 8, 9, 10, 11, 12, 13, 14, 15, 16, 17, 18, 19, 20, 21, 22

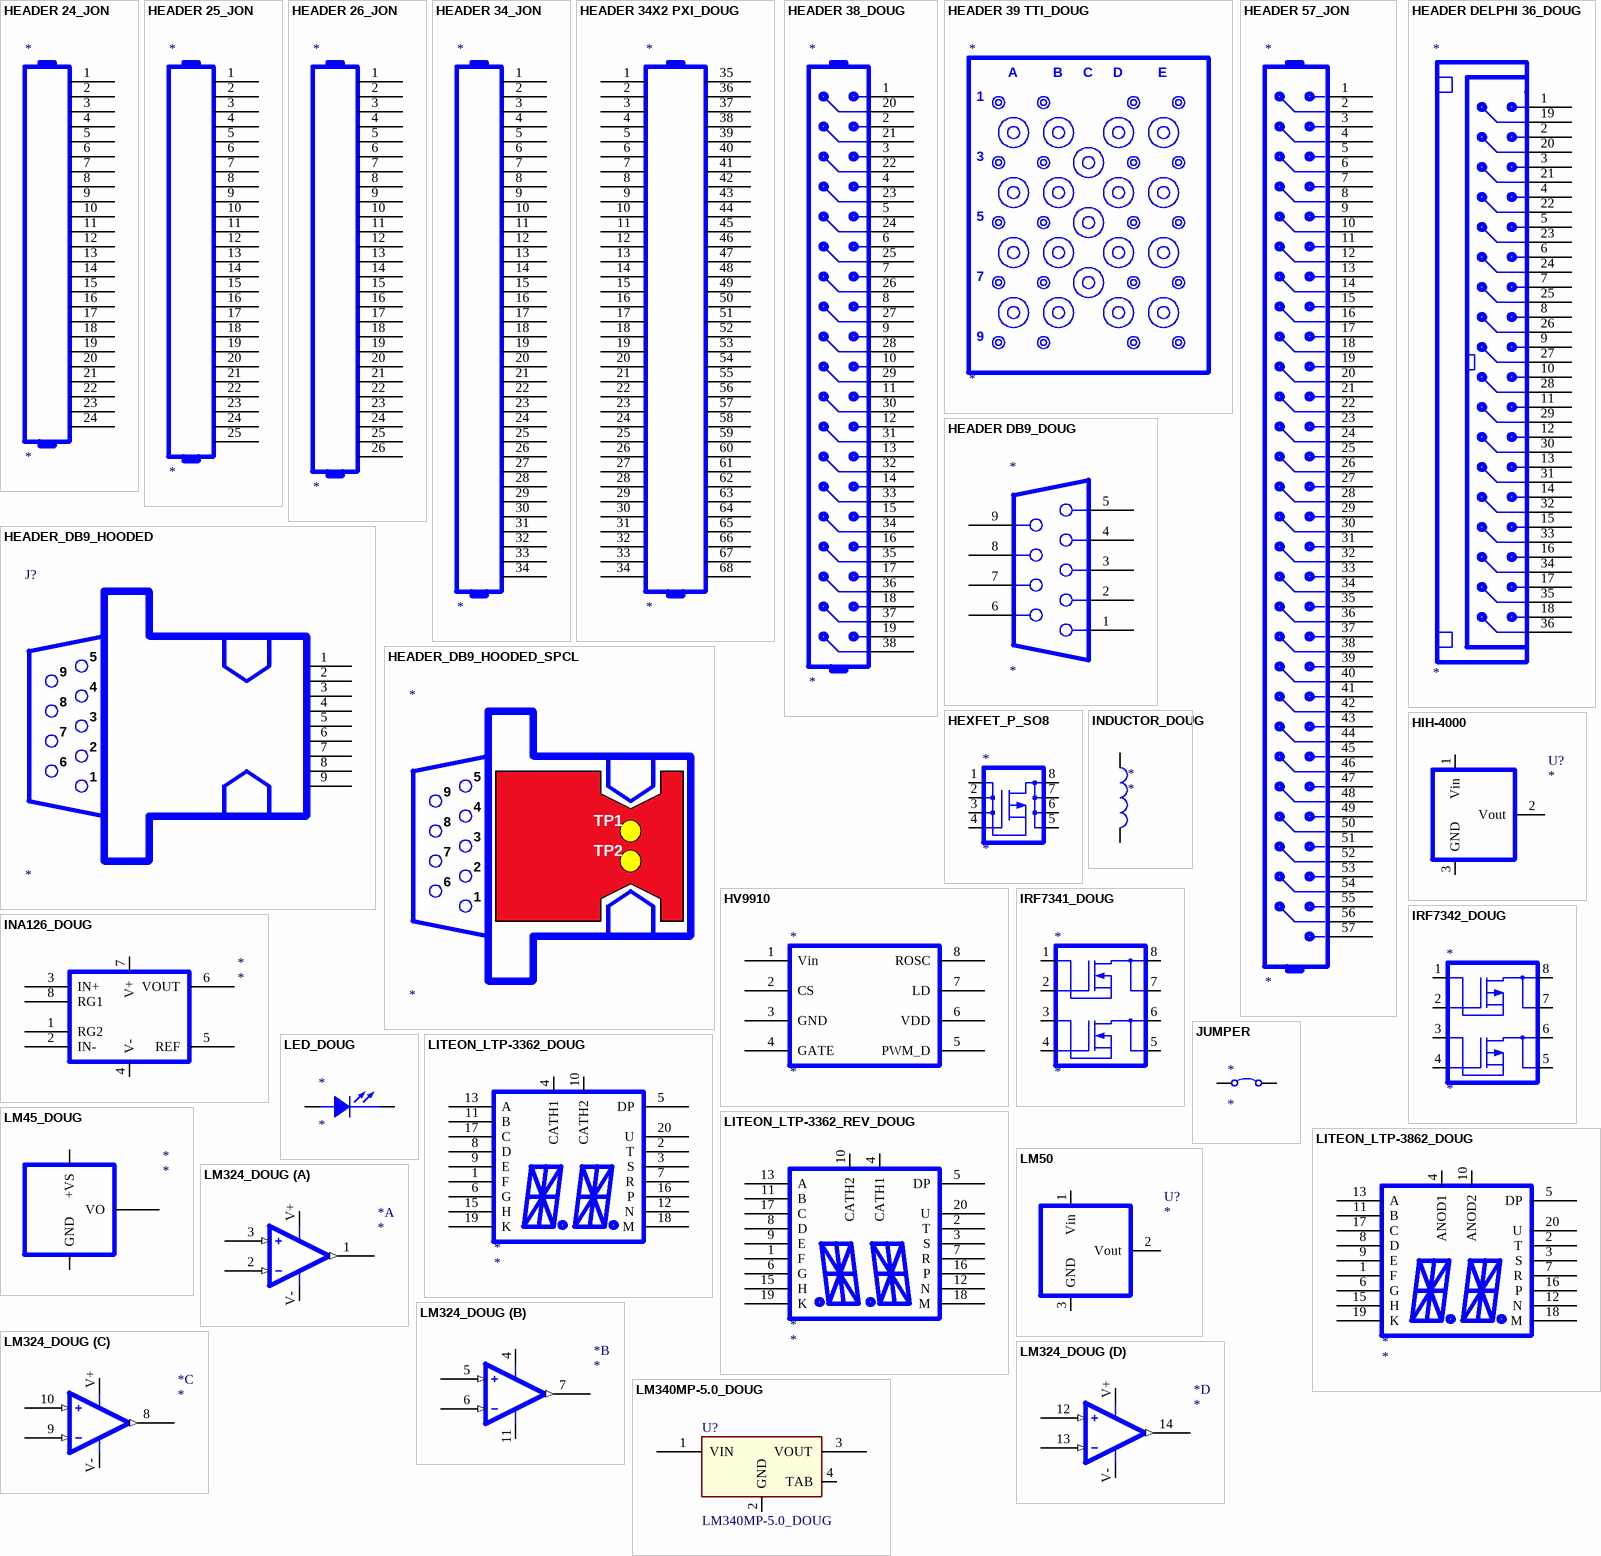
[diagram p4: symbols HEADER 24_JON to LM340MP-5.0_DOUG]

## HEADER 24_JON
designator *
Right: 30; Bottom: 270
pins: 1, 2, 3, 4, 5, 6, 7, 8, 9, 10, 11, 12, 13, 14, 15, 16, 17, 18, 19, 20, 21, 22, 23, 24

## HEADER 25_JON
designator *
pins: 1, 2, 3, 4, 5, 6, 7, 8, 9, 10, 11, 12, 13, 14, 15, 16, 17, 18, 19, 20, 21, 22, 23, 24, 25

## HEADER 26_JON
designator *
pins: 1, 2, 3, 4, 5, 6, 7, 8, 9, 10, 11, 12, 13, 14, 15, 16, 17, 18, 19, 20, 21, 22, 23, 24, 25, 26 NC

## HEADER 34_JON
designator *
pins: 1, 2, 3, 4, 5, 6, 7, 8, 9, 10, 11, 12, 13, 14, 15, 16, 17, 18, 19, 20, 21, 22, 23, 24, 25, 26, 27, 28, 29, 30, 31, 32, 33, 34

## HEADER 34X2 PXI_DOUG
designator *
Right: 40; Bottom: 370
pins: 1, 2, 3, 4, 5, 6, 7, 8, 9, 10, 11, 12, 13, 14, 15, 16, 17, 18, 19, 20, 21, 22, 23, 24, 25, 26, 27, 28, 29, 30, 31, 32, 33, 34, 35, 36, 37, 38, 39, 40, 41, 42, 43, 44, 45, 46, 47, 48, 49, 50, 51, 52, 53, 54, 55, 56, 57, 58, 59, 60, 61, 62, 63, 64, 65, 66, 67, 68

## HEADER 38_DOUG
designator *
Right: 40; Bottom: 420
pins: 1, 2, 3, 4, 5, 6, 7, 8, 9, 10, 11, 12, 13, 14, 15, 16, 17, 18, 19, 20, 21, 22, 23, 24, 25, 26, 27, 28, 29, 30, 31, 32, 33, 34, 35, 36, 37, 38

## HEADER 39 TTI_DOUG
designator *
Right: 160; Bottom: 210
text: A; B; C; D; E; 1; 3; 5; 7; 9

## HEADER 57_JON
designator *
pins: 1, 2, 3, 4, 5, 6, 7, 8, 9, 10, 11, 12, 13, 14, 15, 16, 17, 18, 19, 20, 21, 22, 23, 24, 25, 26, 27, 28, 29, 30, 31, 32, 33, 34, 35, 36, 37, 38, 39, 40, 41, 42, 43, 44, 45, 46, 47, 48, 49, 50, 51, 52, 53, 54, 55, 56, 57

## HEADER DB9_DOUG
designator *
Right: 50; Bottom: 120
pins: 1, 2, 3, 4, 5, 6, 7, 8, 9

## HEADER DELPHI 36_DOUG
designator *
Right: 60; Bottom: 400
pins: 1, 2, 3, 4, 5, 6, 7, 8, 9, 10, 11, 12, 13, 14, 15, 16, 17, 18, 19, 20, 21, 22, 23, 24, 25, 26, 27, 28, 29, 30, 31, 32, 33, 34, 35, 36

## HEADER_DB9_HOODED
designator J?
pins: 1, 2, 3, 4, 5, 6, 7, 8, 9

## HEADER_DB9_HOODED_SPCL
designator *
text: 5; 9; 4; 8; TP1; 3; 7; TP2; 2; 6; 1

## HEXFET_P_SO8
designator *
Right: 40; Bottom: 50
pins: 1 SOURCE, 2 SOURCE, 3 SOURCE, 4 GATE, 5 DRAIN, 6 DRAIN, 7 DRAIN, 8 DRAIN

## HIH-4000
designator U?
Honeywell Humidity sensor
pins: 1 Vin, 2 Vout, 3 GND

## HV9910
designator *
Right: 100; Bottom: 80
pins: 1 Vin, 2 CS, 3 GND, 4 GATE, 5 PWM_D, 6 VDD, 7 LD, 8 ROSC

## INA126_DOUG
designator *
Right: 80; Bottom: 60
pins: 1 RG2, 2 IN-, 3 IN+, 4 V-, 5 REF, 6 VOUT, 7 V+, 8 RG1

## INDUCTOR_DOUG
designator *
Right: 10; Bottom: 40
pins: 1, 2

## IRF7341_DOUG
designator *
Right: 60; Bottom: 80
pins: 1 S1, 2 G1, 3 S2, 4 G2, 5 D2B, 6 D2A, 7 D1B, 8 D1A

## IRF7342_DOUG
designator *
Right: 60; Bottom: 80
pins: 1 S1, 2 G1, 3 S2, 4 G2, 5 D2B, 6 D2A, 7 D1B, 8 D1A

## JUMPER
designator *
Right: 20; Bottom: 20
pins: 1, 2

## LED_DOUG
designator *
Right: 40; Bottom: 20
pins: ANOD, CATH

## LITEON_LTP-3362_DOUG
designator *
Right: 100; Bottom: 100
pins: 1 F, 2 T, 3 S, 4 CATH1, 5 DP, 6 G, 7 R, 8 D, 9 E, 10 CATH2, 11 B, 12 N, 13 A, 15 H, 16 P, 17 C, 18 M, 19 K, 20 U

## LITEON_LTP-3362_REV_DOUG
designator *
Right: 100; Bottom: 100
pins: 1 F, 2 T, 3 S, 4 CATH1, 5 DP, 6 G, 7 R, 8 D, 9 E, 10 CATH2, 11 B, 12 N, 13 A, 15 H, 16 P, 17 C, 18 M, 19 K, 20 U

## LITEON_LTP-3862_DOUG
designator *
Right: 100; Bottom: 100
pins: 1 F, 2 T, 3 S, 4 ANOD1, 5 DP, 6 G, 7 R, 8 D, 9 E, 10 ANOD2, 11 B, 12 N, 13 A, 15 H, 16 P, 17 C, 18 M, 19 K, 20 U

## LM45_DOUG
designator *
Right: 60; Bottom: 60
pins: +VS, GND, VO

## LM50
designator U?
pins: 1 Vin, 2 Vout, 3 GND

## LM324_DOUG
designator *
Right: 40; Bottom: 40
part A pins: 1 OUT (out), 2 IN- (in), 3 IN+ (in), V+, V-
part B pins: 4 V+, 5 IN+ (in), 6 IN- (in), 7 OUT (out), 11 V-
part C pins: 8 OUT (out), 9 IN- (in), 10 IN+ (in), V+, V-
part D pins: 12 IN+ (in), 13 IN- (in), 14 OUT (out), V+, V-

## LM340MP-5.0_DOUG
designator U?
Right: 80; Bottom: 40
pins: 1 VIN, 2 GND, 3 VOUT, 4 TAB

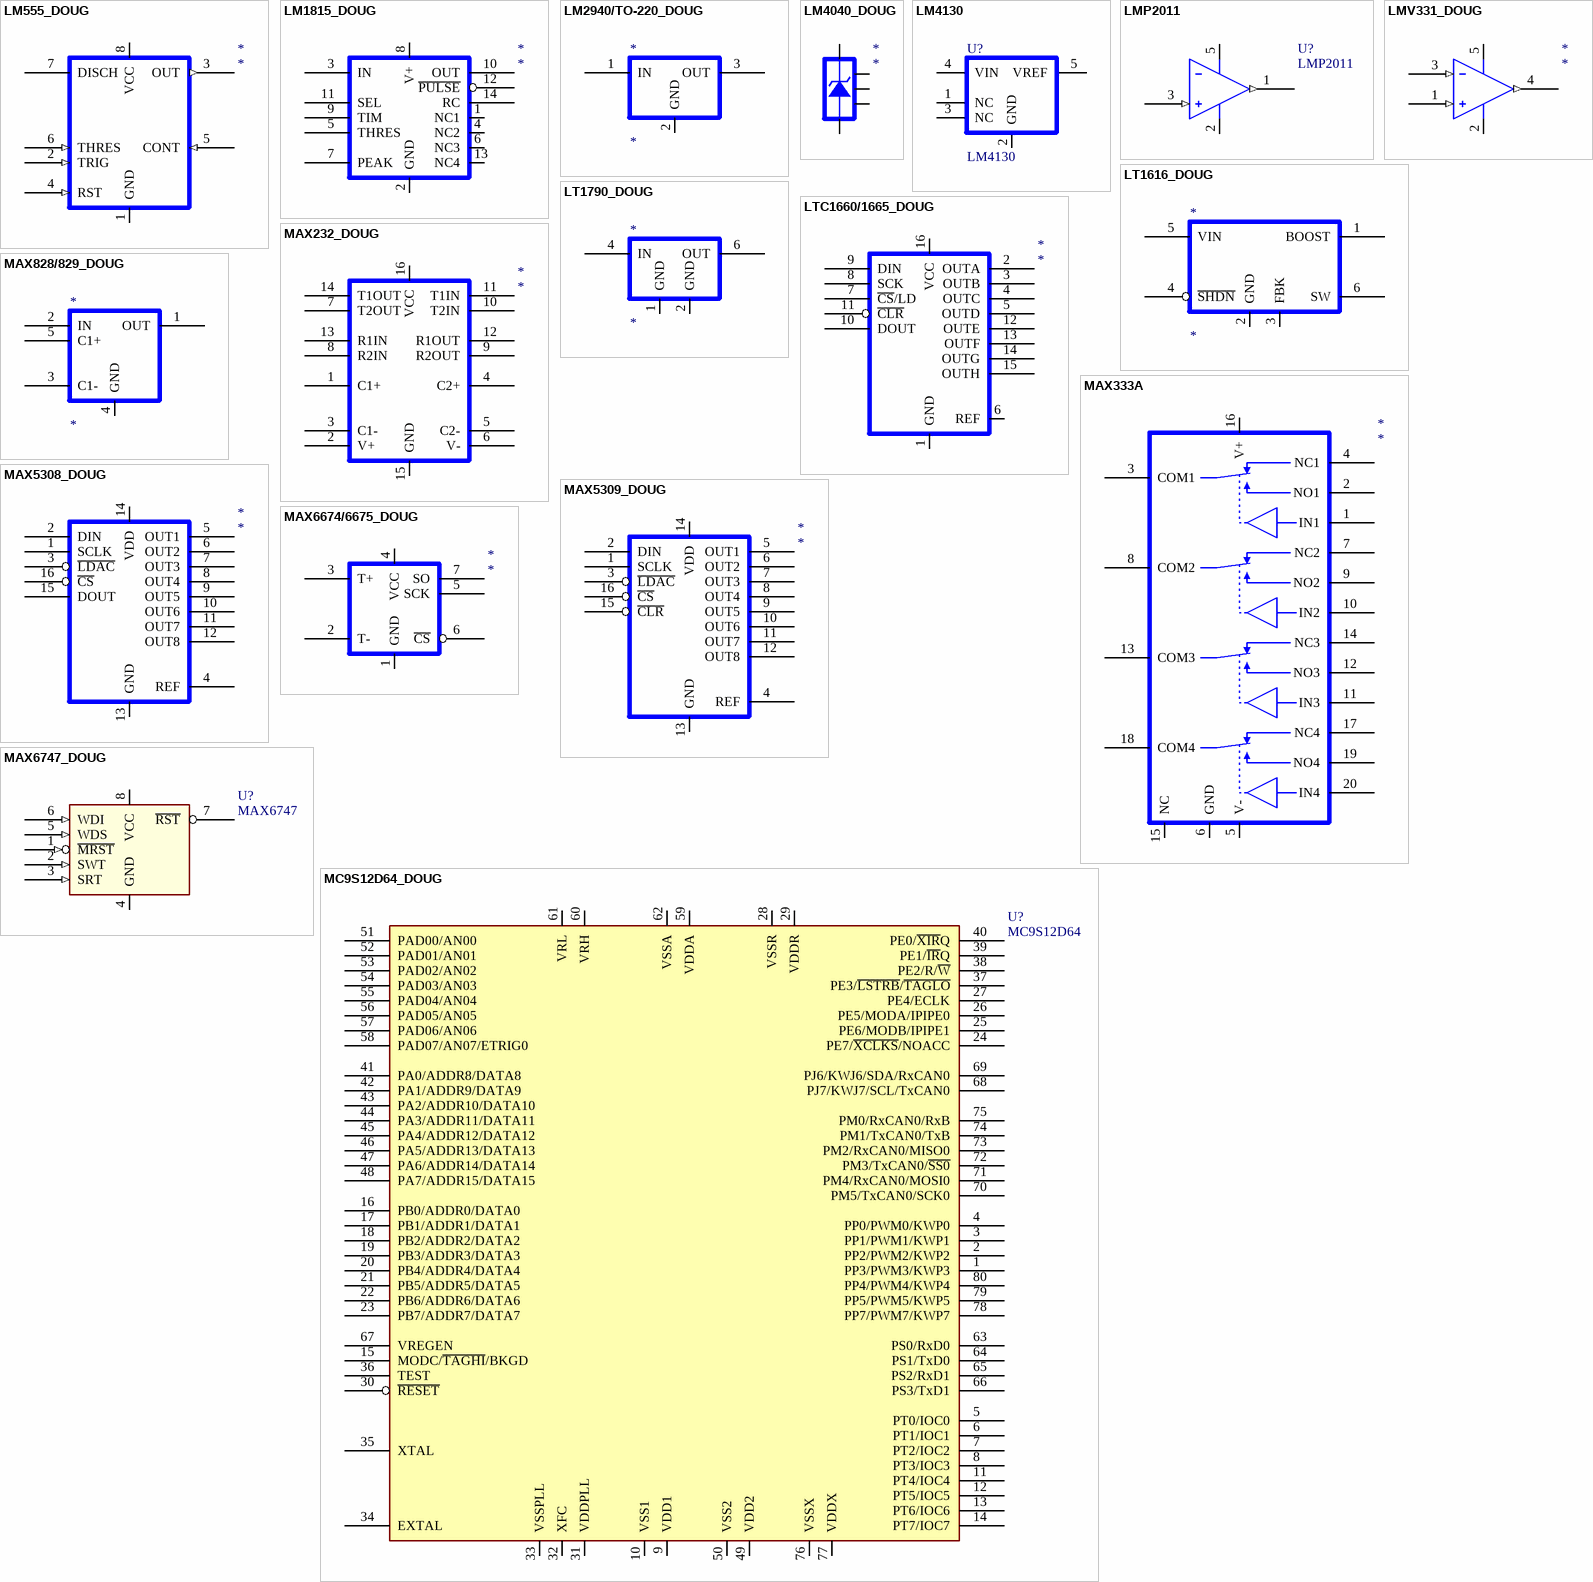
[diagram p5: symbols LM555_DOUG to MC9S12D64_DOUG]

## LM555_DOUG
designator *
Right: 80; Bottom: 100
pins: 1 GND, 2 TRIG (in), 3 OUT (out), 4 RST (in), 5 CONT (in), 6 THRES (in), 7 DISCH, 8 VCC

## LM1815_DOUG
designator *
Right: 80; Bottom: 80
pins: 1 NC1, 2 GND, 3 IN, 4 NC2, 5 THRES, 6 NC3, 7 PEAK, 8 V+, 9 TIM, 10 OUT, 11 SEL, 12 ~{PULSE}, 13 NC4, 14 RC

## LM2940/TO-220_DOUG
designator *
Right: 60; Bottom: 40
pins: 1 IN, 2 GND, 3 OUT

## LM4040_DOUG
designator *
Right: 20; Bottom: 40
pins: 1 ANOD, 2 NC1, 3 CATH, 4 NC2, 5 NC3

## LM4130
designator U?
pins: 1 NC, 2 GND, 3 NC, 4 VIN, 5 VREF

## LMP2011
designator U?
simulation model LMP2011 (Model Description)
pins: 1 OUT (out), 2 -V, 3 +IN (in), 4 -IN (in) hidden to 9, 5 +V

## LMV331_DOUG
designator *
Right: 40; Bottom: 40
pins: 1 IN+ (in), 2 GND, 3 IN- (in), 4 OUT (out), 5 V+

## LT1616_DOUG
designator *
Right: 100; Bottom: 60
pins: 1 BOOST, 2 GND (power), 3 FBK, 4 ~{SHDN}, 5 VIN, 6 SW

## LT1790_DOUG
designator *
Right: 60; Bottom: 40
pins: 1 GND, 2 GND, 4 IN, 6 OUT

## LTC1660/1665_DOUG
designator *
Right: 80; Bottom: 120
pins: 1 GND, 2 OUTA, 3 OUTB, 4 OUTC, 5 OUTD, 6 REF, 7 ~{CS}/LD, 8 SCK, 9 DIN, 10 DOUT, 11 ~{CLR}, 12 OUTE, 13 OUTF, 14 OUTG, 15 OUTH, 16 VCC

## MAX232_DOUG
designator *
Right: 80; Bottom: 120
pins: 1 C1+, 2 V+, 3 C1-, 4 C2+, 5 C2-, 6 V-, 7 T2OUT, 8 R2IN, 9 R2OUT, 10 T2IN, 11 T1IN, 12 R1OUT, 13 R1IN, 14 T1OUT, 15 GND, 16 VCC

## MAX333A
designator *
Right: 120; Bottom: 260
pins: 1 IN1, 2 NO1, 3 COM1, 4 NC1, 5 V- (power), 6 GND (power), 7 NC2, 8 COM2, 9 NO2, 10 IN2, 11 IN3, 12 NO3, 13 COM3, 14 NC3, 15 NC (power), 16 V+ (power), 17 NC4, 18 COM4, 19 NO4, 20 IN4

## MAX828/829_DOUG
designator *
Right: 60; Bottom: 60
pins: 1 OUT, 2 IN, 3 C1-, 4 GND, 5 C1+

## MAX5308_DOUG
designator *
Right: 80; Bottom: 120
pins: 1 SCLK, 2 DIN, 3 ~{LDAC}, 4 REF, 5 OUT1, 6 OUT2, 7 OUT3, 8 OUT4, 9 OUT5, 10 OUT6, 11 OUT7, 12 OUT8, 13 GND, 14 VDD, 15 DOUT, 16 ~{CS}

## MAX5309_DOUG
designator *
Right: 80; Bottom: 120
pins: 1 SCLK, 2 DIN, 3 ~{LDAC}, 4 REF, 5 OUT1, 6 OUT2, 7 OUT3, 8 OUT4, 9 OUT5, 10 OUT6, 11 OUT7, 12 OUT8, 13 GND, 14 VDD, 15 ~{CLR}, 16 ~{CS}

## MAX6674/6675_DOUG
designator *
Right: 60; Bottom: 60
pins: 1 GND, 2 T-, 3 T+, 4 VCC, 5 SCK, 6 ~{CS}, 7 SO

## MAX6747_DOUG
designator U?, comment MAX6747
Right: 80; Bottom: 60
pins: 1 ~{MRST} (in), 2 SWT (in), 3 SRT (in), 4 GND, 5 WDS (in), 6 WDI (in), 7 ~{RST} (oc), 8 VCC

## MC9S12D64_DOUG
designator U?, comment MC9S12D64
Right: 380; Bottom: 410
pins: 1 PP3/PWM3/KWP3, 2 PP2/PWM2/KWP2, 3 PP1/PWM1/KWP1, 4 PP0/PWM0/KWP0, 5 PT0/IOC0, 6 PT1/IOC1, 7 PT2/IOC2, 8 PT3/IOC3, 9 VDD1, 10 VSS1, 11 PT4/IOC4, 12 PT5/IOC5, 13 PT6/IOC6, 14 PT7/IOC7, 15 MODC/~{TAGHI}/BKGD, 16 PB0/ADDR0/DATA0, 17 PB1/ADDR1/DATA1, 18 PB2/ADDR2/DATA2, 19 PB3/ADDR3/DATA3, 20 PB4/ADDR4/DATA4, 21 PB5/ADDR5/DATA5, 22 PB6/ADDR6/DATA6, 23 PB7/ADDR7/DATA7, 24 PE7/~{XCLKS}/NOACC, 25 PE6/MODB/IPIPE1, 26 PE5/MODA/IPIPE0, 27 PE4/ECLK, 28 VSSR, 29 VDDR, 30 ~{RESET}, 31 VDDPLL, 32 XFC, 33 VSSPLL, 34 EXTAL, 35 XTAL, 36 TEST, 37 PE3/~{LSTRB}/~{TAGLO}, 38 PE2/R/~{W}, 39 PE1/~{IR}Q, 40 PE0/~{XIR}Q, 41 PA0/ADDR8/DATA8, 42 PA1/ADDR9/DATA9, 43 PA2/ADDR10/DATA10, 44 PA3/ADDR11/DATA11, 45 PA4/ADDR12/DATA12, 46 PA5/ADDR13/DATA13, 47 PA6/ADDR14/DATA14, 48 PA7/ADDR15/DATA15, 49 VDD2, 50 VSS2, 51 PAD00/AN00, 52 PAD01/AN01, 53 PAD02/AN02, 54 PAD03/AN03, 55 PAD04/AN04, 56 PAD05/AN05, 57 PAD06/AN06, 58 PAD07/AN07/ETRIG0, 59 VDDA, 60 VRH, 61 VRL, 62 VSSA, 63 PS0/RxD0, 64 PS1/TxD0, 65 PS2/RxD1, 66 PS3/TxD1, 67 VREGEN, 68 PJ7/KWJ7/SCL/TxCAN0, 69 PJ6/KWJ6/SDA/RxCAN0, 70 PM5/TxCAN0/SCK0, 71 PM4/RxCAN0/MOSI0, 72 PM3/TxCAN0/~{SS0}, 73 PM2/RxCAN0/MISO0, 74 PM1/TxCAN0/TxB, 75 PM0/RxCAN0/RxB, 76 VSSX, 77 VDDX, 78 PP7/PWM7/KWP7, 79 PP5/PWM5/KWP5, 80 PP4/PWM4/KWP4

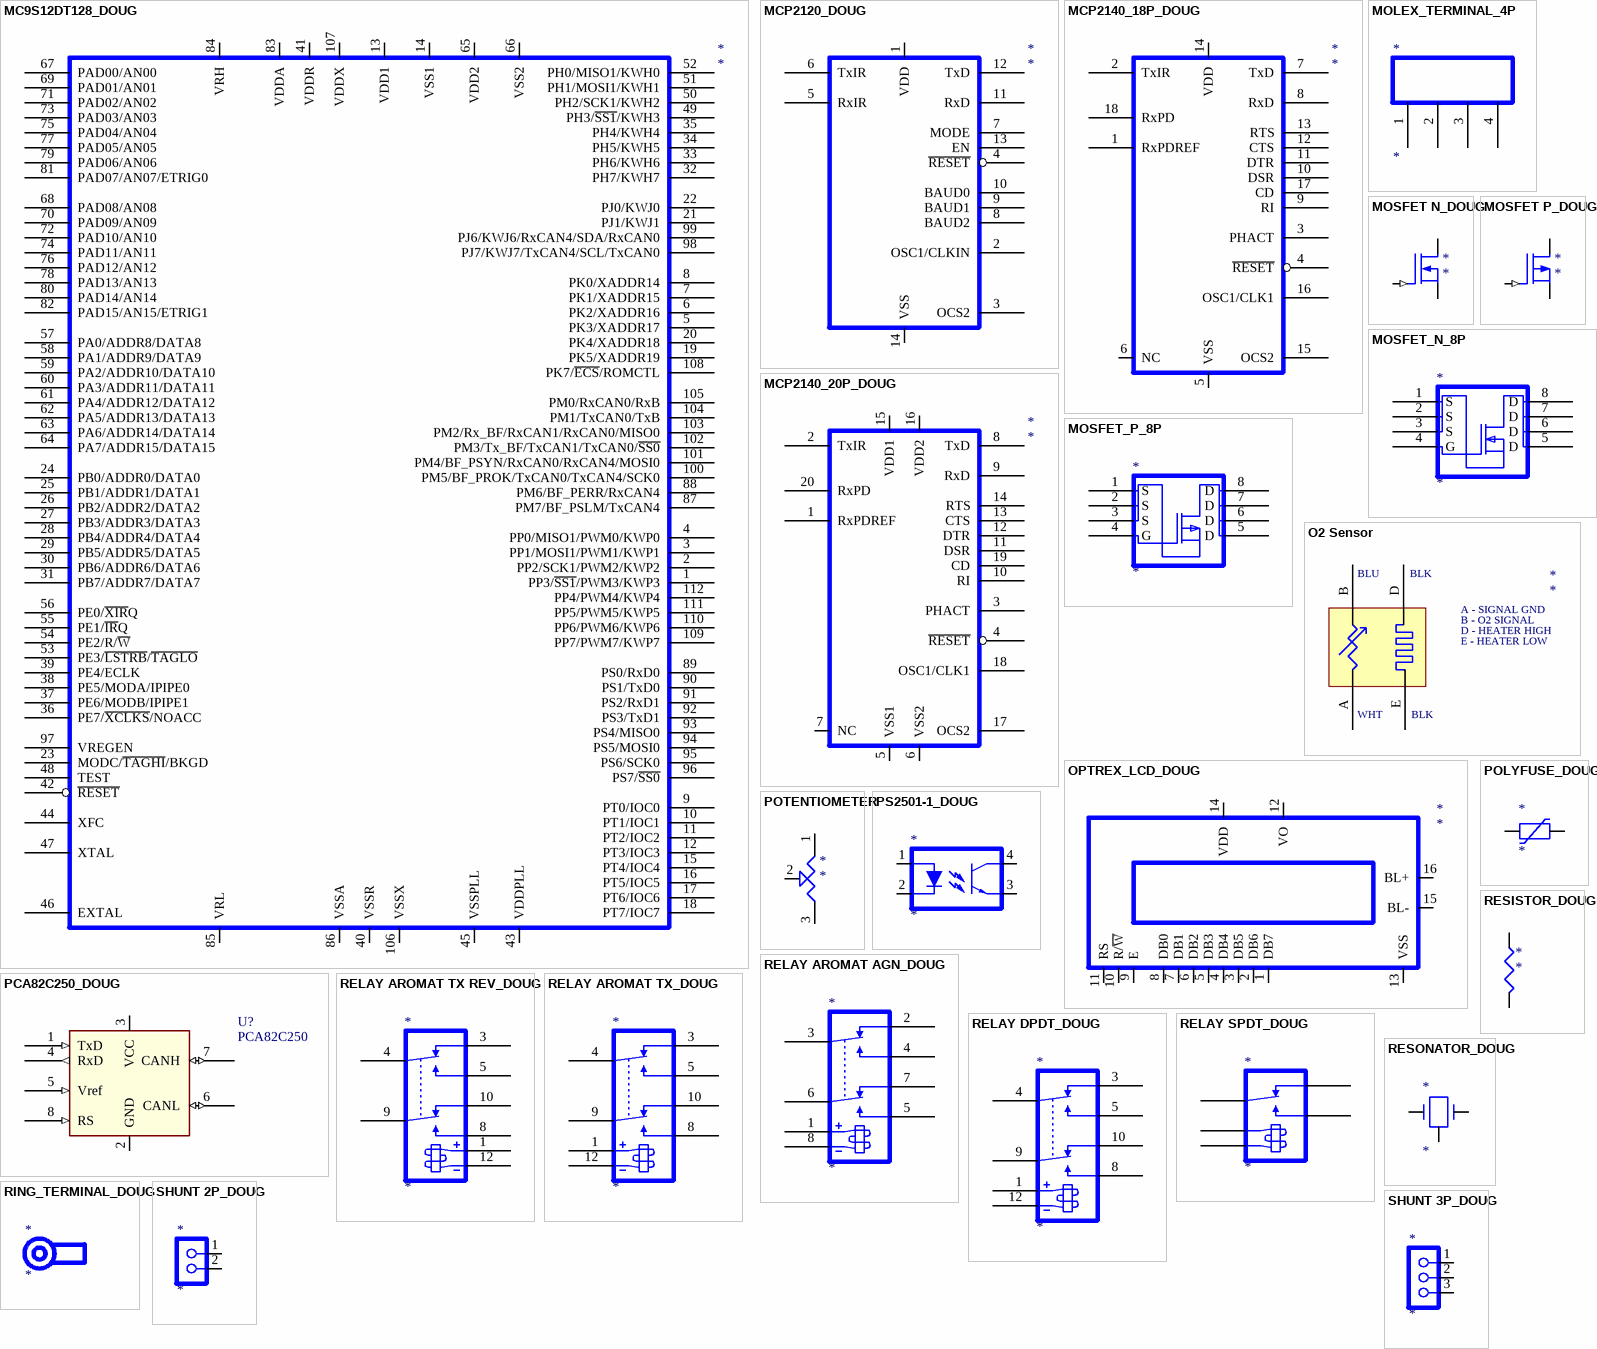
[diagram p6: symbols MC9S12DT128_DOUG to SHUNT 3P_DOUG]

## MC9S12DT128_DOUG
designator *
Right: 400; Bottom: 580
pins: 1 PP3/~{SS1}/PWM3/KWP3, 2 PP2/SCK1/PWM2/KWP2, 3 PP1/MOSI1/PWM1/KWP1, 4 PP0/MISO1/PWM0/KWP0, 5 PK3/XADDR17, 6 PK2/XADDR16, 7 PK1/XADDR15, 8 PK0/XADDR14, 9 PT0/IOC0, 10 PT1/IOC1, 11 PT2/IOC2, 12 PT3/IOC3, 13 VDD1, 14 VSS1, 15 PT4/IOC4, 16 PT5/IOC5, 17 PT6/IOC6, 18 PT7/IOC7, 19 PK5/XADDR19, 20 PK4/XADDR18, 21 PJ1/KWJ1, 22 PJ0/KWJ0, 23 MODC/~{TAGHI}/BKGD, 24 PB0/ADDR0/DATA0, 25 PB1/ADDR1/DATA1, 26 PB2/ADDR2/DATA2, 27 PB3/ADDR3/DATA3, 28 PB4/ADDR4/DATA4, 29 PB5/ADDR5/DATA5, 30 PB6/ADDR6/DATA6, 31 PB7/ADDR7/DATA7, 32 PH7/KWH7, 33 PH6/KWH6, 34 PH5/KWH5, 35 PH4/KWH4, 36 PE7/~{XCLKS}/NOACC, 37 PE6/MODB/IPIPE1, 38 PE5/MODA/IPIPE0, 39 PE4/ECLK, 40 VSSR, 41 VDDR, 42 ~{RESET}, 43 VDDPLL, 44 XFC, 45 VSSPLL, 46 EXTAL, 47 XTAL, 48 TEST, 49 PH3/~{SS1}/KWH3, 50 PH2/SCK1/KWH2, 51 PH1/MOSI1/KWH1, 52 PH0/MISO1/KWH0, 53 PE3/~{LSTRB}/~{TAGLO}, 54 PE2/R/~{W}, 55 PE1/~{IR}Q, 56 PE0/~{XIR}Q, 57 PA0/ADDR8/DATA8, 58 PA1/ADDR9/DATA9, 59 PA2/ADDR10/DATA10, 60 PA3/ADDR11/DATA11, 61 PA4/ADDR12/DATA12, 62 PA5/ADDR13/DATA13, 63 PA6/ADDR14/DATA14, 64 PA7/ADDR15/DATA15, 65 VDD2, 66 VSS2, 67 PAD00/AN00, 68 PAD08/AN08, 69 PAD01/AN01, 70 PAD09/AN09, 71 PAD02/AN02, 72 PAD10/AN10, 73 PAD03/AN03, 74 PAD11/AN11, 75 PAD04/AN04, 76 PAD12/AN12, 77 PAD05/AN05, 78 PAD13/AN13, 79 PAD06/AN06, 80 PAD14/AN14, 81 PAD07/AN07/ETRIG0, 82 PAD15/AN15/ETRIG1, 83 VDDA, 84 VRH, 85 VRL, 86 VSSA, 87 PM7/BF_PSLM/TxCAN4, 88 PM6/BF_PERR/RxCAN4, 89 PS0/RxD0, 90 PS1/TxD0, 91 PS2/RxD1, 92 PS3/TxD1, 93 PS4/MISO0, 94 PS5/MOSI0, 95 PS6/SCK0, 96 PS7/~{SS0}, 97 VREGEN, 98 PJ7/KWJ7/TxCAN4/SCL/TxCAN0, 99 PJ6/KWJ6/RxCAN4/SDA/RxCAN0, 100 PM5/BF_PROK/TxCAN0/TxCAN4/SCK0, 101 PM4/BF_PSYN/RxCAN0/RxCAN4/MOSI0, 102 PM3/Tx_BF/TxCAN1/TxCAN0/~{SS0}, 103 PM2/Rx_BF/RxCAN1/RxCAN0/MISO0, 104 PM1/TxCAN0/TxB, 105 PM0/RxCAN0/RxB, 106 VSSX, 107 VDDX, 108 PK7/~{ECS}/ROMCTL, 109 PP7/PWM7/KWP7, 110 PP6/PWM6/KWP6, 111 PP5/PWM5/KWP5, 112 PP4/PWM4/KWP4

## MCP2120_DOUG
designator *
Right: 100; Bottom: 180
pins: 1 VDD, 2 OSC1/CLKIN, 3 OCS2, 4 ~{RESET}, 5 RxIR, 6 TxIR, 7 MODE, 8 BAUD2, 9 BAUD1, 10 BAUD0, 11 RxD, 12 TxD, 13 EN, 14 VSS

## MCP2140_18P_DOUG
designator *
Right: 100; Bottom: 210
pins: 1 RxPDREF, 2 TxIR, 3 PHACT, 4 ~{RESET}, 5 VSS, 6 NC, 7 TxD, 8 RxD, 9 RI, 10 DSR, 11 DTR, 12 CTS, 13 RTS, 14 VDD, 15 OCS2, 16 OSC1/CLK1, 17 CD, 18 RxPD

## MCP2140_20P_DOUG
designator *
Right: 100; Bottom: 210
pins: 1 RxPDREF, 2 TxIR, 3 PHACT, 4 ~{RESET}, 5 VSS1, 6 VSS2, 7 NC, 8 TxD, 9 RxD, 10 RI, 11 DSR, 12 DTR, 13 CTS, 14 RTS, 15 VDD1, 16 VDD2, 17 OCS2, 18 OSC1/CLK1, 19 CD, 20 RxPD

## MOLEX_TERMINAL_4P
designator *
Right: 80; Bottom: 30
pins: 1, 2, 3, 4

## MOSFET N_DOUG
designator *
Right: 20; Bottom: 20
pins: DRAIN, GATE (in), SOURCE

## MOSFET P_DOUG
designator *
Right: 20; Bottom: 20
pins: DRAIN, GATE (in), SOURCE

## MOSFET_N_8P
designator *
Right: 60; Bottom: 60
pins: 1 S, 2 S, 3 S, 4 G, 5 D, 6 D, 7 D, 8 D

## MOSFET_P_8P
designator *
Right: 60; Bottom: 60
pins: 1 S, 2 S, 3 S, 4 G, 5 D, 6 D, 7 D, 8 D

## O2 Sensor
designator *
pins: A SIG_GND, B SIGNAL, D HEATER_POS, E HEATER_LOW
text: BLU; BLK; A - SIGNAL GND; B - O2 SIGNAL; D - HEATER HIGH; E - HEATER LOW; WHT

## OPTREX_LCD_DOUG
designator *
Right: 220; Bottom: 100
pins: 1 DB7, 2 DB6, 3 DB5, 4 DB4, 5 DB3, 6 DB2, 7 DB1, 8 DB0, 9 E, 10 R/~{W}, 11 RS, 12 VO, 13 VSS, 14 VDD, 15 BL-, 16 BL+

## PCA82C250_DOUG
designator U?, comment PCA82C250
Right: 80; Bottom: 70
pins: 1 TxD (in), 2 GND, 3 VCC, 4 RxD (out), 5 Vref (in), 6 CANL (io), 7 CANH (io), 8 RS (in)

## POLYFUSE_DOUG
designator *
Right: 20; Bottom: 20
pins: 1, 2

## POTENTIOMETER
designator *
Right: 80; Bottom: 80
pins: 1 TOP, 2 ADJ, 3 BOT

## PS2501-1_DOUG
designator *
Right: 60; Bottom: 40
pins: 1, 2, 3, 4

## RELAY AROMAT AGN_DOUG
designator *
Right: 40; Bottom: 100
pins: 1 COIL+, 2 NC1, 3 COM1, 4 NO1, 5 NO2, 6 COM2, 7 NC2, 8 COIL-

## RELAY AROMAT TX REV_DOUG
designator *
Right: 40; Bottom: 100
pins: 1 COILA, 3 NC1, 4 COM1, 5 NO1, 8 NO2, 9 COM2, 10 NC2, 12 COILB

## RELAY AROMAT TX_DOUG
designator *
Right: 40; Bottom: 100
pins: 1 COILA, 3 NC1, 4 COM1, 5 NO1, 8 NO2, 9 COM2, 10 NC2, 12 COILB

## RELAY DPDT_DOUG
designator *
Right: 40; Bottom: 100
pins: 1 COILA, 3 NC1, 4 COM1, 5 NO1, 8 NO2, 9 COM2, 10 NC2, 12 COILB

## RELAY SPDT_DOUG
designator *
Right: 40; Bottom: 60
pins: COILA, COILB, COM, NC, NO

## RESISTOR_DOUG
designator *
Right: 20; Bottom: 30
pins: 1, 2

## RESONATOR_DOUG
designator *
Right: 20; Bottom: 20
pins: 1, 2, 3

## RING_TERMINAL_DOUG
designator *
Right: 40; Bottom: 20

## SHUNT 2P_DOUG
designator *
Right: 20; Bottom: 30
pins: 1, 2

## SHUNT 3P_DOUG
designator *
Right: 20; Bottom: 40
pins: 1, 2, 3

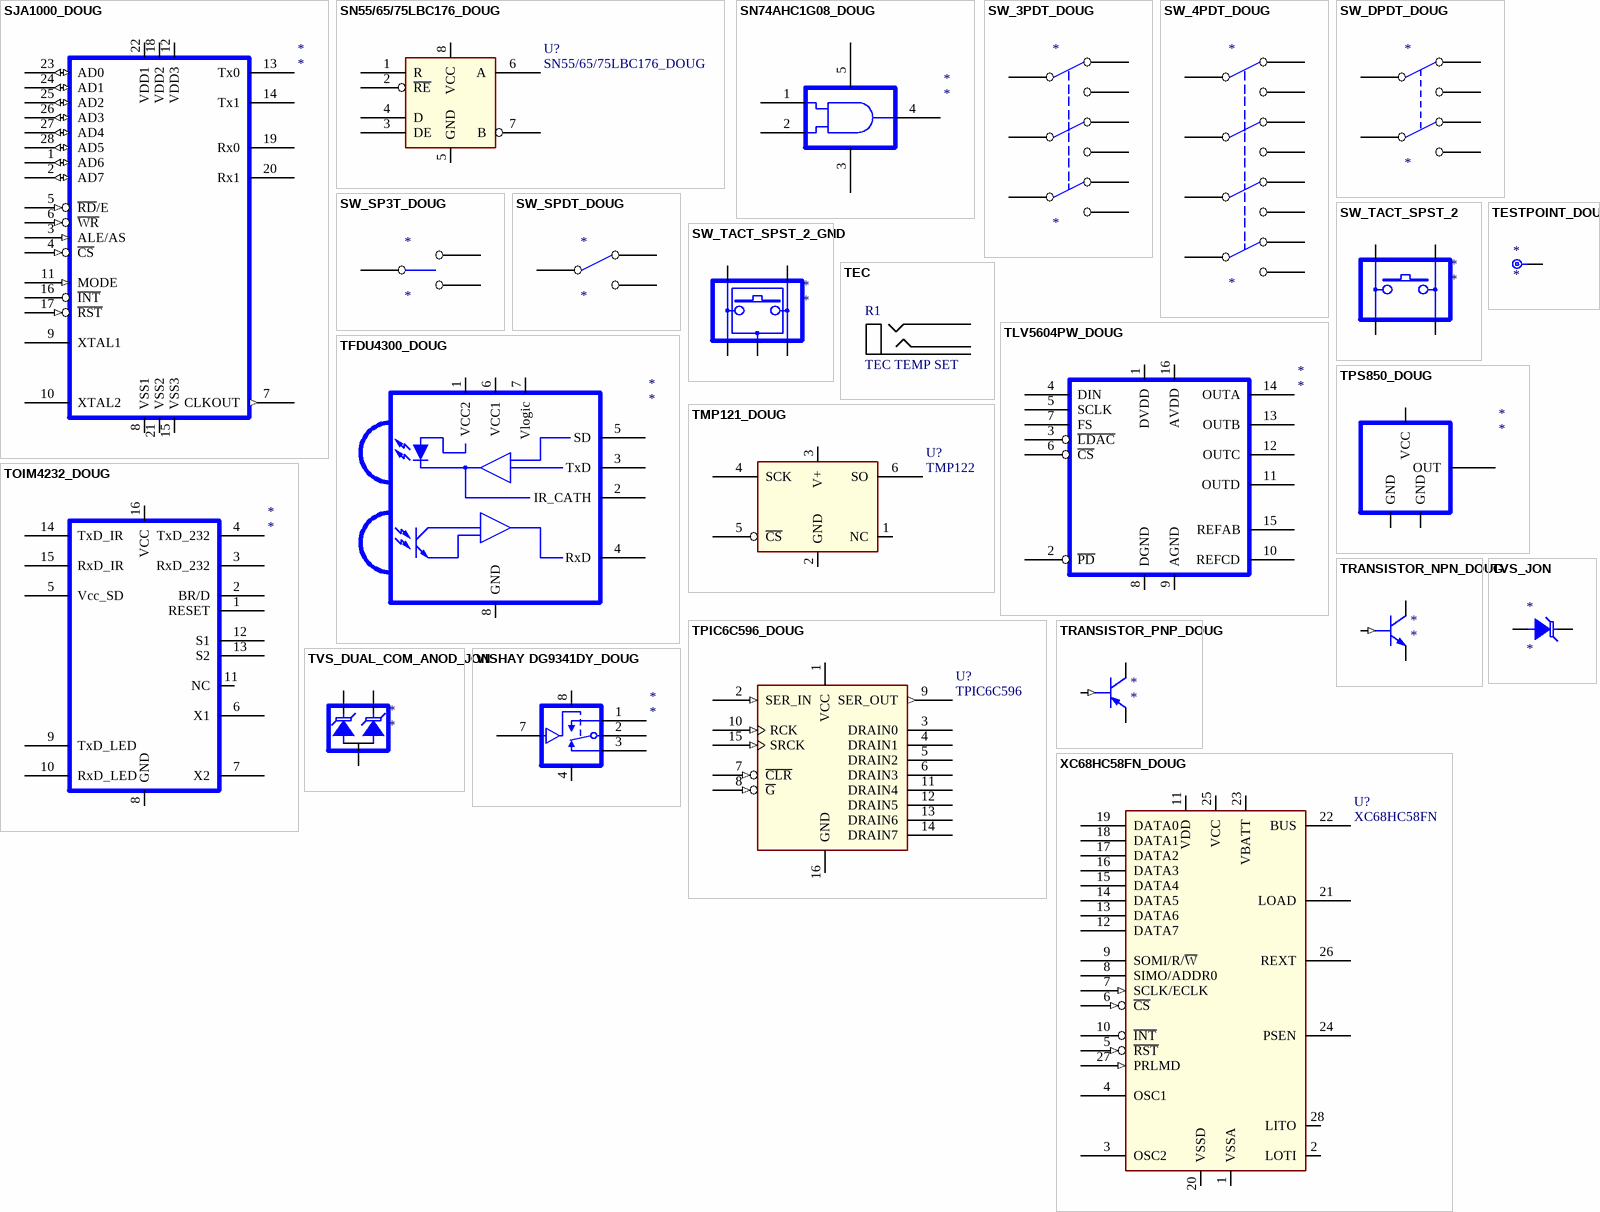
[diagram p7: symbols SJA1000_DOUG to XC68HC58FN_DOUG]

## SJA1000_DOUG
designator *
Right: 120; Bottom: 240
pins: 1 AD6 (io), 2 AD7 (io), 3 ALE/AS (in), 4 ~{CS} (in), 5 ~{RD}/E (in), 6 ~{WR} (in), 7 CLKOUT (out), 8 VSS1, 9 XTAL1, 10 XTAL2, 11 MODE (in), 12 VDD3, 13 Tx0, 14 Tx1, 15 VSS3, 16 ~{INT} (oc), 17 ~{RST} (in), 18 VDD2, 19 Rx0, 20 Rx1, 21 VSS2, 22 VDD1, 23 AD0 (io), 24 AD1 (io), 25 AD2 (io), 26 AD3 (io), 27 AD4 (io), 28 AD5 (io)

## SN55/65/75LBC176_DOUG
designator U?
Right: 60; Bottom: 60
pins: 1 R, 2 ~{RE}, 3 DE, 4 D, 5 GND, 6 A, 7 B, 8 VCC

## SN74AHC1G08_DOUG
designator *
Right: 60; Bottom: 40
pins: 1 A, 2 B, 3 GND, 4 Y, 5 VCC

## SW_3PDT_DOUG
designator *
Right: 20; Bottom: 100
pins: COM1, COM2, COM3, NC1, NC2, NC3, NO1, NO2, NO3

## SW_4PDT_DOUG
designator *
Right: 20; Bottom: 150
pins: COM1, COM2, COM3, COM4, NC1, NC2, NC3, NC4, NO1, NO2, NO3, NO4

## SW_DPDT_DOUG
designator *
Right: 20; Bottom: 80
pins: COM1, COM2, NC1, NC2, NO1, NO2

## SW_SP3T_DOUG
designator *
Right: 20; Bottom: 40
pins: COM, NO1, NO2

## SW_SPDT_DOUG
designator *
Right: 20; Bottom: 40
pins: COM, NC, NO

## SW_TACT_SPST_2
designator *
Right: 60; Bottom: 40
pins: COM1, COM2, NO1, NO2

## SW_TACT_SPST_2_GND
designator *
Right: 60; Bottom: 40
pins: COM1, COM2, NO1, NO2, SHIELD

## TEC
designator R1, comment TEC TEMP SET
Right: 80; Bottom: 80
pins: 1, 2, 3

## TESTPOINT_DOUG
designator *
Right: 10; Bottom: 20
pins: 1

## TFDU4300_DOUG
designator *
Right: 170; Bottom: 140
pins: 1 VCC2, 2 IR_CATH, 3 TxD, 4 RxD, 5 SD, 6 VCC1, 7 Vlogic, 8 GND

## TLV5604PW_DOUG
designator *
Right: 120; Bottom: 130
pins: 1 DVDD, 2 ~{PD}, 3 ~{LDAC}, 4 DIN, 5 SCLK, 6 ~{CS}, 7 FS, 8 DGND, 9 AGND, 10 REFCD, 11 OUTD, 12 OUTC, 13 OUTB, 14 OUTA, 15 REFAB, 16 AVDD

## TMP121_DOUG
designator U?, comment TMP122
Right: 80; Bottom: 60
pins: 1 NC, 2 GND, 3 V+, 4 SCK, 5 ~{CS}, 6 SO

## TOIM4232_DOUG
designator *
Right: 100; Bottom: 180
pins: 1 RESET, 2 BR/D, 3 RxD_232, 4 TxD_232, 5 Vcc_SD, 6 X1, 7 X2, 8 GND, 9 TxD_LED, 10 RxD_LED, 11 NC, 12 S1, 13 S2, 14 TxD_IR, 15 RxD_IR, 16 VCC

## TPIC6C596_DOUG
designator U?, comment TPIC6C596
Right: 100; Bottom: 110
pins: 1 VCC (power), 2 SER_IN (in), 3 DRAIN0 (oc), 4 DRAIN1 (oc), 5 DRAIN2 (oc), 6 DRAIN3 (oc), 7 ~{CLR} (in), 8 ~{G} (in), 9 SER_OUT (out), 10 RCK (in), 11 DRAIN4 (oc), 12 DRAIN5 (oc), 13 DRAIN6 (oc), 14 DRAIN7 (oc), 15 SRCK (in), 16 GND (power)

## TPS850_DOUG
designator *
Right: 60; Bottom: 60
pins: GND, GND, OUT, VCC

## TRANSISTOR_NPN_DOUG
designator *
Right: 20; Bottom: 20
footprint SOT-23B (SOT-23; 3 Leads; Body 3.0 x 2.6 mm, inc. leads (LxW max))
pins: 1 BASE (in), 2 EMIT, 3 COLL

## TRANSISTOR_PNP_DOUG
designator *
Right: 20; Bottom: 20
footprint SOT-23B (SOT-23; 3 Leads; Body 3.0 x 2.6 mm, inc. leads (LxW max))
pins: 1 BASE (in), 2 EMIT, 3 COLL

## TVS_DUAL_COM_ANOD_JON
designator *
footprint SOT23A (SOT-23; 3 Leads; Body 3.0 x 2.5 mm, inc. leads (LxW max)); pin to pad ANOD>3 CATH1>1 CATH2>2
pins: ANOD, CATH1, CATH2

## TVS_JON
designator *
Right: 20; Bottom: 20
pins: ANOD, CATH

## VISHAY DG9341DY_DOUG
designator *
Right: 40; Bottom: 40
pins: 1 NO, 2 COM, 3 NC, 4 GND, 7 IN, 8 V+

## XC68HC58FN_DOUG
designator U?, comment XC68HC58FN
Right: 120; Bottom: 240
pins: 1 VSSA, 2 LOTI, 3 OSC2, 4 OSC1, 5 ~{RST} (in), 6 ~{CS} (in), 7 SCLK/ECLK (in), 8 SIMO/ADDR0, 9 SOMI/R/~{W}, 10 ~{INT} (oc), 11 VDD, 12 DATA7, 13 DATA6, 14 DATA5, 15 DATA4, 16 DATA3, 17 DATA2, 18 DATA1, 19 DATA0, 20 VSSD, 21 LOAD, 22 BUS, 23 VBATT, 24 PSEN, 25 VCC, 26 REXT, 27 PRLMD (in), 28 LITO